# Altium integrated library Atmel Microcontroller AVR UC3.IntLib: 227 symbols (part 16 of 32)
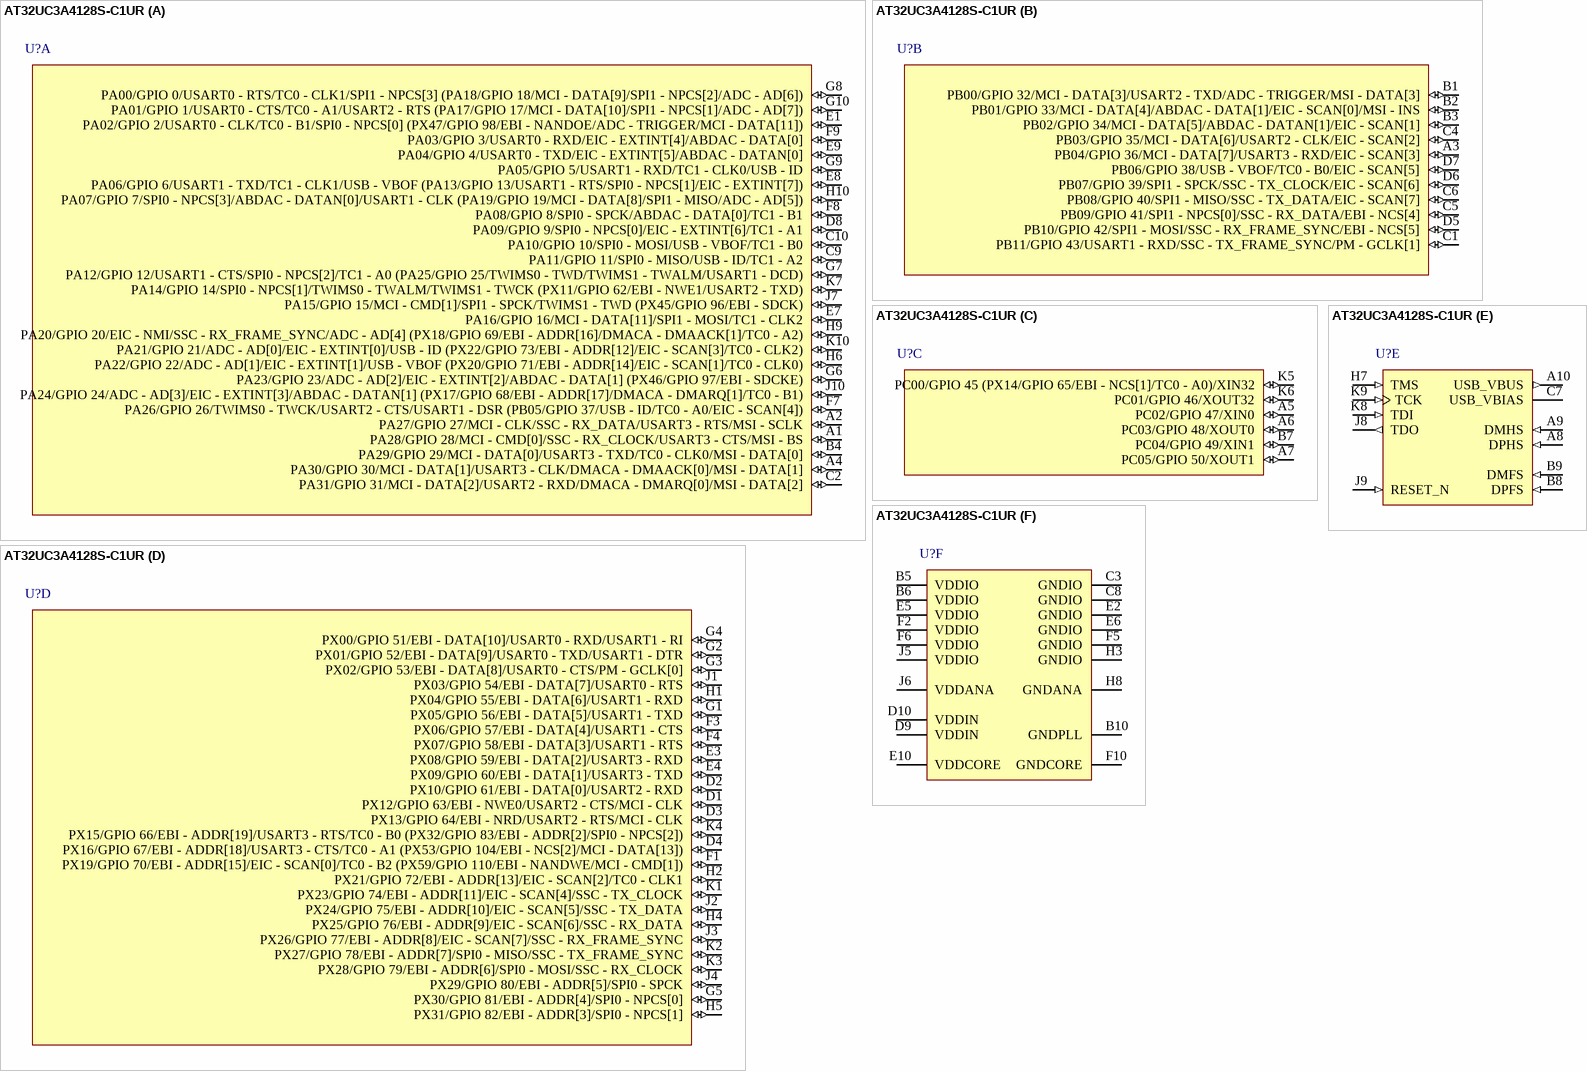
[diagram p150: symbol AT32UC3A4128S-C1UR]

## AT32UC3A4128S-C1UR
designator U?
32-bit AVR UC3 Microcontroller, 128KB Flash, 128KB SRAM, Crypto, 100-Ball VFBGA, Industrial Grade, Reel; DatasheetVersion: revG, Nov-2011; PackageVersion: 2011; PackageReference: VFBGA100; PackageDescription: 100-Ball Thin Fine-Pitch BGA, 7 x 7 x 0.66 mm Body, 0.65 mm Pitch; ComponentLink1Description: Manufacturer URL; ComponentLink1URL: http://www.atmel.com/; ComponentLink2Description: AT32UC3A3/A4 Datasheet; ComponentLink2URL: http://www.atmel.com/dyn/resources/prod_documents/doc32072.pdf; ComponentLink3Description: AT32UC3A3/A4 Summary; ComponentLink3URL: http://www.atmel.com/dyn/resources/prod_documents/32072s.pdf
footprint VFBGA100 (BGA, 100-Leads, Body 7x7mm, Pitch 0.65mm)
part A pins: A1 PA28/GPIO 28/MCI - CMD[0]/SSC - RX_CLOCK/USART3 - CTS/MSI - BS (io), A2 PA27/GPIO 27/MCI - CLK/SSC - RX_DATA/USART3 - RTS/MSI - SCLK (io), A4 PA30/GPIO 30/MCI - DATA[1]/USART3 - CLK/DMACA - DMAACK[0]/MSI - DATA[1] (io), B4 PA29/GPIO 29/MCI - DATA[0]/USART3 - TXD/TC0 - CLK0/MSI - DATA[0] (io), C2 PA31/GPIO 31/MCI - DATA[2]/USART2 - RXD/DMACA - DMARQ[0]/MSI - DATA[2] (io), C9 PA11/GPIO 11/SPI0 - MISO/USB - ID/TC1 - A2 (io), C10 PA10/GPIO 10/SPI0 - MOSI/USB - VBOF/TC1 - B0 (io), D8 PA09/GPIO 9/SPI0 - NPCS[0]/EIC - EXTINT[6]/TC1 - A1 (io), E1 PA02/GPIO 2/USART0 - CLK/TC0 - B1/SPI0 - NPCS[0] (PX47/GPIO 98/EBI - NANDOE/ADC - TRIGGER/MCI - DATA[11]) (io), E7 PA16/GPIO 16/MCI - DATA[11]/SPI1 - MOSI/TC1 - CLK2 (io), E8 PA06/GPIO 6/USART1 - TXD/TC1 - CLK1/USB - VBOF (PA13/GPIO 13/USART1 - RTS/SPI0 - NPCS[1]/EIC - EXTINT[7]) (io), E9 PA04/GPIO 4/USART0 - TXD/EIC - EXTINT[5]/ABDAC - DATAN[0] (io), F7 PA26/GPIO 26/TWIMS0 - TWCK/USART2 - CTS/USART1 - DSR (PB05/GPIO 37/USB - ID/TC0 - A0/EIC - SCAN[4]) (io), F8 PA08/GPIO 8/SPI0 - SPCK/ABDAC - DATA[0]/TC1 - B1 (io), F9 PA03/GPIO 3/USART0 - RXD/EIC - EXTINT[4]/ABDAC - DATA[0] (io), G6 PA23/GPIO 23/ADC - AD[2]/EIC - EXTINT[2]/ABDAC - DATA[1] (PX46/GPIO 97/EBI - SDCKE) (io), G7 PA12/GPIO 12/USART1 - CTS/SPI0 - NPCS[2]/TC1 - A0 (PA25/GPIO 25/TWIMS0 - TWD/TWIMS1 - TWALM/USART1 - DCD) (io), G8 PA00/GPIO 0/USART0 - RTS/TC0 - CLK1/SPI1 - NPCS[3] (PA18/GPIO 18/MCI - DATA[9]/SPI1 - NPCS[2]/ADC - AD[6]) (io), G9 PA05/GPIO 5/USART1 - RXD/TC1 - CLK0/USB - ID (io), G10 PA01/GPIO 1/USART0 - CTS/TC0 - A1/USART2 - RTS (PA17/GPIO 17/MCI - DATA[10]/SPI1 - NPCS[1]/ADC - AD[7]) (io), H6 PA22/GPIO 22/ADC - AD[1]/EIC - EXTINT[1]/USB - VBOF (PX20/GPIO 71/EBI - ADDR[14]/EIC - SCAN[1]/TC0 - CLK0) (io), H9 PA20/GPIO 20/EIC - NMI/SSC - RX_FRAME_SYNC/ADC - AD[4] (PX18/GPIO 69/EBI - ADDR[16]/DMACA - DMAACK[1]/TC0 - A2) (io), H10 PA07/GPIO 7/SPI0 - NPCS[3]/ABDAC - DATAN[0]/USART1 - CLK (PA19/GPIO 19/MCI - DATA[8]/SPI1 - MISO/ADC - AD[5]) (io), J7 PA15/GPIO 15/MCI - CMD[1]/SPI1 - SPCK/TWIMS1 - TWD (PX45/GPIO 96/EBI - SDCK) (io), J10 PA24/GPIO 24/ADC - AD[3]/EIC - EXTINT[3]/ABDAC - DATAN[1] (PX17/GPIO 68/EBI - ADDR[17]/DMACA - DMARQ[1]/TC0 - B1) (io), K7 PA14/GPIO 14/SPI0 - NPCS[1]/TWIMS0 - TWALM/TWIMS1 - TWCK (PX11/GPIO 62/EBI - NWE1/USART2 - TXD) (io), K10 PA21/GPIO 21/ADC - AD[0]/EIC - EXTINT[0]/USB - ID (PX22/GPIO 73/EBI - ADDR[12]/EIC - SCAN[3]/TC0 - CLK2) (io)
part B pins: A3 PB04/GPIO 36/MCI - DATA[7]/USART3 - RXD/EIC - SCAN[3] (io), B1 PB00/GPIO 32/MCI - DATA[3]/USART2 - TXD/ADC - TRIGGER/MSI - DATA[3] (io), B2 PB01/GPIO 33/MCI - DATA[4]/ABDAC - DATA[1]/EIC - SCAN[0]/MSI - INS (io), B3 PB02/GPIO 34/MCI - DATA[5]/ABDAC - DATAN[1]/EIC - SCAN[1] (io), C1 PB11/GPIO 43/USART1 - RXD/SSC - TX_FRAME_SYNC/PM - GCLK[1] (io), C4 PB03/GPIO 35/MCI - DATA[6]/USART2 - CLK/EIC - SCAN[2] (io), C5 PB09/GPIO 41/SPI1 - NPCS[0]/SSC - RX_DATA/EBI - NCS[4] (io), C6 PB08/GPIO 40/SPI1 - MISO/SSC - TX_DATA/EIC - SCAN[7] (io), D5 PB10/GPIO 42/SPI1 - MOSI/SSC - RX_FRAME_SYNC/EBI - NCS[5] (io), D6 PB07/GPIO 39/SPI1 - SPCK/SSC - TX_CLOCK/EIC - SCAN[6] (io), D7 PB06/GPIO 38/USB - VBOF/TC0 - B0/EIC - SCAN[5] (io)
part C pins: A5 PC02/GPIO 47/XIN0 (io), A6 PC03/GPIO 48/XOUT0 (io), A7 PC05/GPIO 50/XOUT1 (io), B7 PC04/GPIO 49/XIN1 (io), K5 PC00/GPIO 45 (PX14/GPIO 65/EBI - NCS[1]/TC0 - A0)/XIN32 (io), K6 PC01/GPIO 46/XOUT32 (io)
part D pins: D1 PX12/GPIO 63/EBI - NWE0/USART2 - CTS/MCI - CLK (io), D2 PX10/GPIO 61/EBI - DATA[0]/USART2 - RXD (io), D3 PX13/GPIO 64/EBI - NRD/USART2 - RTS/MCI - CLK (io), D4 PX16/GPIO 67/EBI - ADDR[18]/USART3 - CTS/TC0 - A1 (PX53/GPIO 104/EBI - NCS[2]/MCI - DATA[13]) (io), E3 PX08/GPIO 59/EBI - DATA[2]/USART3 - RXD (io), E4 PX09/GPIO 60/EBI - DATA[1]/USART3 - TXD (io), F1 PX19/GPIO 70/EBI - ADDR[15]/EIC - SCAN[0]/TC0 - B2 (PX59/GPIO 110/EBI - NANDWE/MCI - CMD[1]) (io), F3 PX06/GPIO 57/EBI - DATA[4]/USART1 - CTS (io), F4 PX07/GPIO 58/EBI - DATA[3]/USART1 - RTS (io), G1 PX05/GPIO 56/EBI - DATA[5]/USART1 - TXD (io), G2 PX01/GPIO 52/EBI - DATA[9]/USART0 - TXD/USART1 - DTR (io), G3 PX02/GPIO 53/EBI - DATA[8]/USART0 - CTS/PM - GCLK[0] (io), G4 PX00/GPIO 51/EBI - DATA[10]/USART0 - RXD/USART1 - RI (io), G5 PX30/GPIO 81/EBI - ADDR[4]/SPI0 - NPCS[0] (io), H1 PX04/GPIO 55/EBI - DATA[6]/USART1 - RXD (io), H2 PX21/GPIO 72/EBI - ADDR[13]/EIC - SCAN[2]/TC0 - CLK1 (io), H4 PX25/GPIO 76/EBI - ADDR[9]/EIC - SCAN[6]/SSC - RX_DATA (io), H5 PX31/GPIO 82/EBI - ADDR[3]/SPI0 - NPCS[1] (io), J1 PX03/GPIO 54/EBI - DATA[7]/USART0 - RTS (io), J2 PX24/GPIO 75/EBI - ADDR[10]/EIC - SCAN[5]/SSC - TX_DATA (io), J3 PX26/GPIO 77/EBI - ADDR[8]/EIC - SCAN[7]/SSC - RX_FRAME_SYNC (io), J4 PX29/GPIO 80/EBI - ADDR[5]/SPI0 - SPCK (io), K1 PX23/GPIO 74/EBI - ADDR[11]/EIC - SCAN[4]/SSC - TX_CLOCK (io), K2 PX27/GPIO 78/EBI - ADDR[7]/SPI0 - MISO/SSC - TX_FRAME_SYNC (io), K3 PX28/GPIO 79/EBI - ADDR[6]/SPI0 - MOSI/SSC - RX_CLOCK (io), K4 PX15/GPIO 66/EBI - ADDR[19]/USART3 - RTS/TC0 - B0 (PX32/GPIO 83/EBI - ADDR[2]/SPI0 - NPCS[2]) (io)
part E pins: A8 DPHS (in), A9 DMHS (in), A10 USB_VBUS (out), B8 DPFS (in), B9 DMFS (in), C7 USB_VBIAS, H7 TMS (in), J8 TDO (out), J9 RESET_N (in), K8 TDI (in), K9 TCK (in)
part F pins: B5 VDDIO (power), B6 VDDIO (power), B10 GNDPLL (power), C3 GNDIO (power), C8 GNDIO (power), D9 VDDIN (power), D10 VDDIN (power), E2 GNDIO (power), E5 VDDIO (power), E6 GNDIO (power), E10 VDDCORE (power), F2 VDDIO (power), F5 GNDIO (power), F6 VDDIO (power), F10 GNDCORE (power), H3 GNDIO (power), H8 GNDANA (power), J5 VDDIO (power), J6 VDDANA (power)

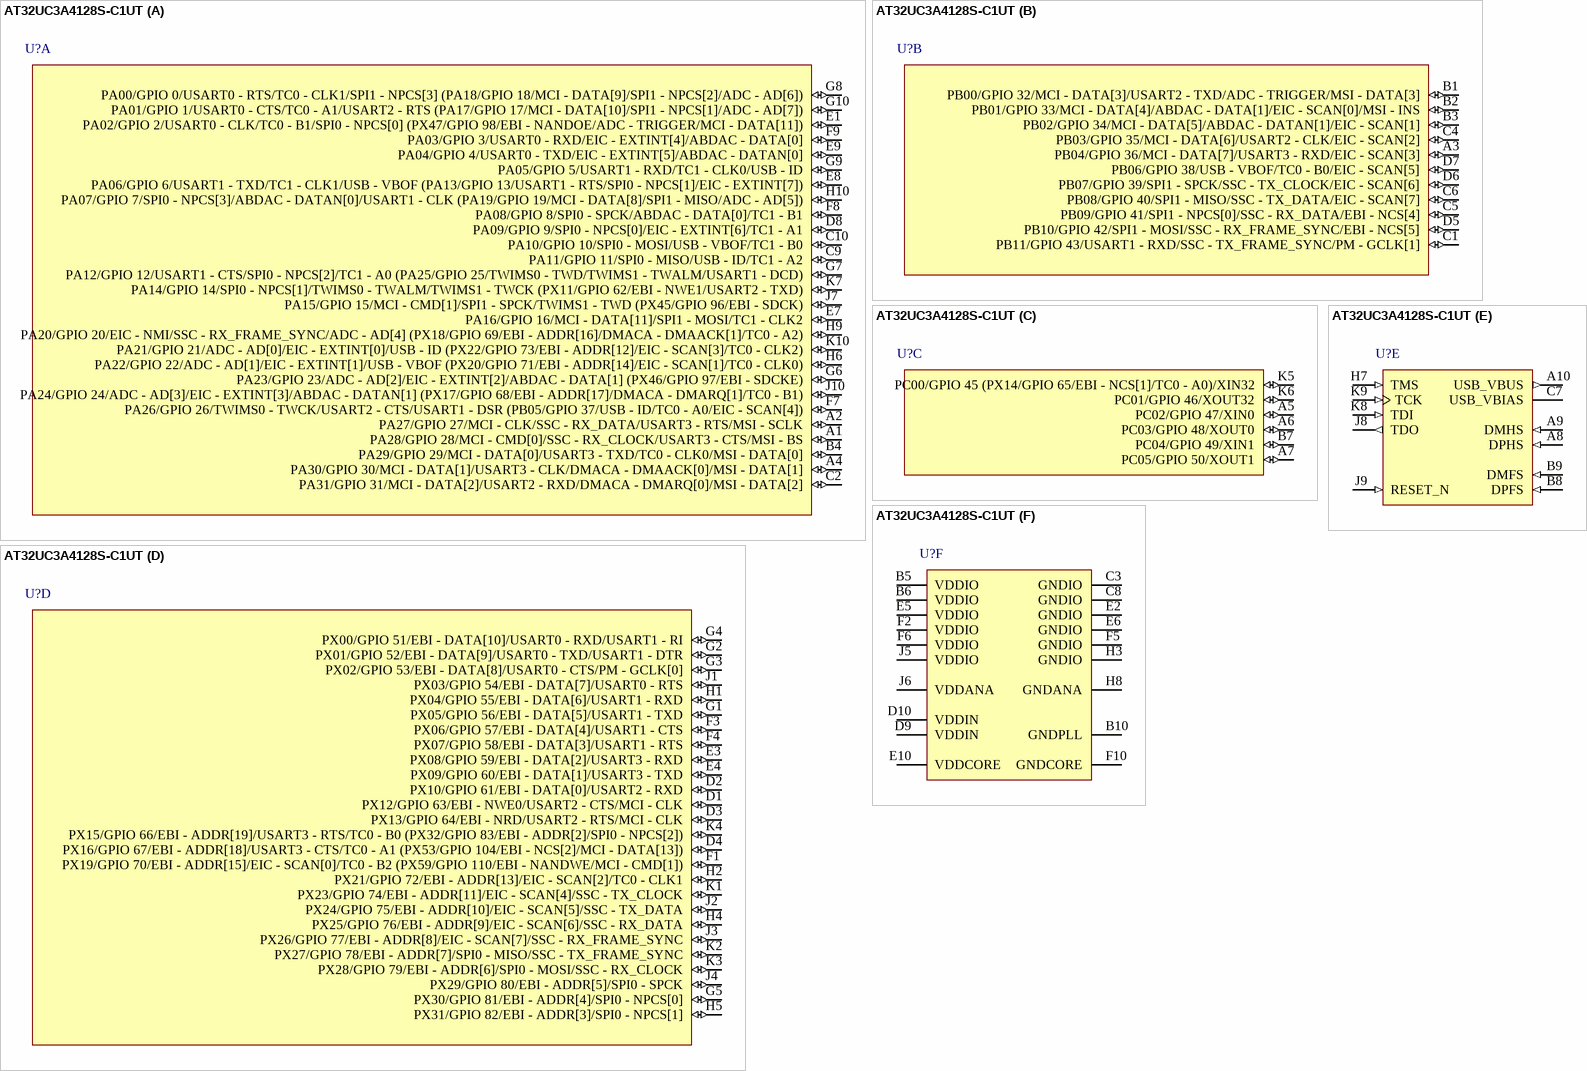
[diagram p51: symbol AT32UC3A4128S-C1UT]

## AT32UC3A4128S-C1UT
designator U?
32-bit AVR UC3 Microcontroller, 128KB Flash, 128KB SRAM, Crypto, 100-Ball VFBGA, Industrial Grade, Tray; DatasheetVersion: revG, Nov-2011; PackageVersion: 2011; PackageReference: VFBGA100; PackageDescription: 100-Ball Thin Fine-Pitch BGA, 7 x 7 x 0.66 mm Body, 0.65 mm Pitch; ComponentLink1Description: Manufacturer URL; ComponentLink1URL: http://www.atmel.com/; ComponentLink2Description: AT32UC3A3/A4 Datasheet; ComponentLink2URL: http://www.atmel.com/dyn/resources/prod_documents/doc32072.pdf; ComponentLink3Description: AT32UC3A3/A4 Summary; ComponentLink3URL: http://www.atmel.com/dyn/resources/prod_documents/32072s.pdf
footprint VFBGA100 (BGA, 100-Leads, Body 7x7mm, Pitch 0.65mm)
part A pins: A1 PA28/GPIO 28/MCI - CMD[0]/SSC - RX_CLOCK/USART3 - CTS/MSI - BS (io), A2 PA27/GPIO 27/MCI - CLK/SSC - RX_DATA/USART3 - RTS/MSI - SCLK (io), A4 PA30/GPIO 30/MCI - DATA[1]/USART3 - CLK/DMACA - DMAACK[0]/MSI - DATA[1] (io), B4 PA29/GPIO 29/MCI - DATA[0]/USART3 - TXD/TC0 - CLK0/MSI - DATA[0] (io), C2 PA31/GPIO 31/MCI - DATA[2]/USART2 - RXD/DMACA - DMARQ[0]/MSI - DATA[2] (io), C9 PA11/GPIO 11/SPI0 - MISO/USB - ID/TC1 - A2 (io), C10 PA10/GPIO 10/SPI0 - MOSI/USB - VBOF/TC1 - B0 (io), D8 PA09/GPIO 9/SPI0 - NPCS[0]/EIC - EXTINT[6]/TC1 - A1 (io), E1 PA02/GPIO 2/USART0 - CLK/TC0 - B1/SPI0 - NPCS[0] (PX47/GPIO 98/EBI - NANDOE/ADC - TRIGGER/MCI - DATA[11]) (io), E7 PA16/GPIO 16/MCI - DATA[11]/SPI1 - MOSI/TC1 - CLK2 (io), E8 PA06/GPIO 6/USART1 - TXD/TC1 - CLK1/USB - VBOF (PA13/GPIO 13/USART1 - RTS/SPI0 - NPCS[1]/EIC - EXTINT[7]) (io), E9 PA04/GPIO 4/USART0 - TXD/EIC - EXTINT[5]/ABDAC - DATAN[0] (io), F7 PA26/GPIO 26/TWIMS0 - TWCK/USART2 - CTS/USART1 - DSR (PB05/GPIO 37/USB - ID/TC0 - A0/EIC - SCAN[4]) (io), F8 PA08/GPIO 8/SPI0 - SPCK/ABDAC - DATA[0]/TC1 - B1 (io), F9 PA03/GPIO 3/USART0 - RXD/EIC - EXTINT[4]/ABDAC - DATA[0] (io), G6 PA23/GPIO 23/ADC - AD[2]/EIC - EXTINT[2]/ABDAC - DATA[1] (PX46/GPIO 97/EBI - SDCKE) (io), G7 PA12/GPIO 12/USART1 - CTS/SPI0 - NPCS[2]/TC1 - A0 (PA25/GPIO 25/TWIMS0 - TWD/TWIMS1 - TWALM/USART1 - DCD) (io), G8 PA00/GPIO 0/USART0 - RTS/TC0 - CLK1/SPI1 - NPCS[3] (PA18/GPIO 18/MCI - DATA[9]/SPI1 - NPCS[2]/ADC - AD[6]) (io), G9 PA05/GPIO 5/USART1 - RXD/TC1 - CLK0/USB - ID (io), G10 PA01/GPIO 1/USART0 - CTS/TC0 - A1/USART2 - RTS (PA17/GPIO 17/MCI - DATA[10]/SPI1 - NPCS[1]/ADC - AD[7]) (io), H6 PA22/GPIO 22/ADC - AD[1]/EIC - EXTINT[1]/USB - VBOF (PX20/GPIO 71/EBI - ADDR[14]/EIC - SCAN[1]/TC0 - CLK0) (io), H9 PA20/GPIO 20/EIC - NMI/SSC - RX_FRAME_SYNC/ADC - AD[4] (PX18/GPIO 69/EBI - ADDR[16]/DMACA - DMAACK[1]/TC0 - A2) (io), H10 PA07/GPIO 7/SPI0 - NPCS[3]/ABDAC - DATAN[0]/USART1 - CLK (PA19/GPIO 19/MCI - DATA[8]/SPI1 - MISO/ADC - AD[5]) (io), J7 PA15/GPIO 15/MCI - CMD[1]/SPI1 - SPCK/TWIMS1 - TWD (PX45/GPIO 96/EBI - SDCK) (io), J10 PA24/GPIO 24/ADC - AD[3]/EIC - EXTINT[3]/ABDAC - DATAN[1] (PX17/GPIO 68/EBI - ADDR[17]/DMACA - DMARQ[1]/TC0 - B1) (io), K7 PA14/GPIO 14/SPI0 - NPCS[1]/TWIMS0 - TWALM/TWIMS1 - TWCK (PX11/GPIO 62/EBI - NWE1/USART2 - TXD) (io), K10 PA21/GPIO 21/ADC - AD[0]/EIC - EXTINT[0]/USB - ID (PX22/GPIO 73/EBI - ADDR[12]/EIC - SCAN[3]/TC0 - CLK2) (io)
part B pins: A3 PB04/GPIO 36/MCI - DATA[7]/USART3 - RXD/EIC - SCAN[3] (io), B1 PB00/GPIO 32/MCI - DATA[3]/USART2 - TXD/ADC - TRIGGER/MSI - DATA[3] (io), B2 PB01/GPIO 33/MCI - DATA[4]/ABDAC - DATA[1]/EIC - SCAN[0]/MSI - INS (io), B3 PB02/GPIO 34/MCI - DATA[5]/ABDAC - DATAN[1]/EIC - SCAN[1] (io), C1 PB11/GPIO 43/USART1 - RXD/SSC - TX_FRAME_SYNC/PM - GCLK[1] (io), C4 PB03/GPIO 35/MCI - DATA[6]/USART2 - CLK/EIC - SCAN[2] (io), C5 PB09/GPIO 41/SPI1 - NPCS[0]/SSC - RX_DATA/EBI - NCS[4] (io), C6 PB08/GPIO 40/SPI1 - MISO/SSC - TX_DATA/EIC - SCAN[7] (io), D5 PB10/GPIO 42/SPI1 - MOSI/SSC - RX_FRAME_SYNC/EBI - NCS[5] (io), D6 PB07/GPIO 39/SPI1 - SPCK/SSC - TX_CLOCK/EIC - SCAN[6] (io), D7 PB06/GPIO 38/USB - VBOF/TC0 - B0/EIC - SCAN[5] (io)
part C pins: A5 PC02/GPIO 47/XIN0 (io), A6 PC03/GPIO 48/XOUT0 (io), A7 PC05/GPIO 50/XOUT1 (io), B7 PC04/GPIO 49/XIN1 (io), K5 PC00/GPIO 45 (PX14/GPIO 65/EBI - NCS[1]/TC0 - A0)/XIN32 (io), K6 PC01/GPIO 46/XOUT32 (io)
part D pins: D1 PX12/GPIO 63/EBI - NWE0/USART2 - CTS/MCI - CLK (io), D2 PX10/GPIO 61/EBI - DATA[0]/USART2 - RXD (io), D3 PX13/GPIO 64/EBI - NRD/USART2 - RTS/MCI - CLK (io), D4 PX16/GPIO 67/EBI - ADDR[18]/USART3 - CTS/TC0 - A1 (PX53/GPIO 104/EBI - NCS[2]/MCI - DATA[13]) (io), E3 PX08/GPIO 59/EBI - DATA[2]/USART3 - RXD (io), E4 PX09/GPIO 60/EBI - DATA[1]/USART3 - TXD (io), F1 PX19/GPIO 70/EBI - ADDR[15]/EIC - SCAN[0]/TC0 - B2 (PX59/GPIO 110/EBI - NANDWE/MCI - CMD[1]) (io), F3 PX06/GPIO 57/EBI - DATA[4]/USART1 - CTS (io), F4 PX07/GPIO 58/EBI - DATA[3]/USART1 - RTS (io), G1 PX05/GPIO 56/EBI - DATA[5]/USART1 - TXD (io), G2 PX01/GPIO 52/EBI - DATA[9]/USART0 - TXD/USART1 - DTR (io), G3 PX02/GPIO 53/EBI - DATA[8]/USART0 - CTS/PM - GCLK[0] (io), G4 PX00/GPIO 51/EBI - DATA[10]/USART0 - RXD/USART1 - RI (io), G5 PX30/GPIO 81/EBI - ADDR[4]/SPI0 - NPCS[0] (io), H1 PX04/GPIO 55/EBI - DATA[6]/USART1 - RXD (io), H2 PX21/GPIO 72/EBI - ADDR[13]/EIC - SCAN[2]/TC0 - CLK1 (io), H4 PX25/GPIO 76/EBI - ADDR[9]/EIC - SCAN[6]/SSC - RX_DATA (io), H5 PX31/GPIO 82/EBI - ADDR[3]/SPI0 - NPCS[1] (io), J1 PX03/GPIO 54/EBI - DATA[7]/USART0 - RTS (io), J2 PX24/GPIO 75/EBI - ADDR[10]/EIC - SCAN[5]/SSC - TX_DATA (io), J3 PX26/GPIO 77/EBI - ADDR[8]/EIC - SCAN[7]/SSC - RX_FRAME_SYNC (io), J4 PX29/GPIO 80/EBI - ADDR[5]/SPI0 - SPCK (io), K1 PX23/GPIO 74/EBI - ADDR[11]/EIC - SCAN[4]/SSC - TX_CLOCK (io), K2 PX27/GPIO 78/EBI - ADDR[7]/SPI0 - MISO/SSC - TX_FRAME_SYNC (io), K3 PX28/GPIO 79/EBI - ADDR[6]/SPI0 - MOSI/SSC - RX_CLOCK (io), K4 PX15/GPIO 66/EBI - ADDR[19]/USART3 - RTS/TC0 - B0 (PX32/GPIO 83/EBI - ADDR[2]/SPI0 - NPCS[2]) (io)
part E pins: A8 DPHS (in), A9 DMHS (in), A10 USB_VBUS (out), B8 DPFS (in), B9 DMFS (in), C7 USB_VBIAS, H7 TMS (in), J8 TDO (out), J9 RESET_N (in), K8 TDI (in), K9 TCK (in)
part F pins: B5 VDDIO (power), B6 VDDIO (power), B10 GNDPLL (power), C3 GNDIO (power), C8 GNDIO (power), D9 VDDIN (power), D10 VDDIN (power), E2 GNDIO (power), E5 VDDIO (power), E6 GNDIO (power), E10 VDDCORE (power), F2 VDDIO (power), F5 GNDIO (power), F6 VDDIO (power), F10 GNDCORE (power), H3 GNDIO (power), H8 GNDANA (power), J5 VDDIO (power), J6 VDDANA (power)

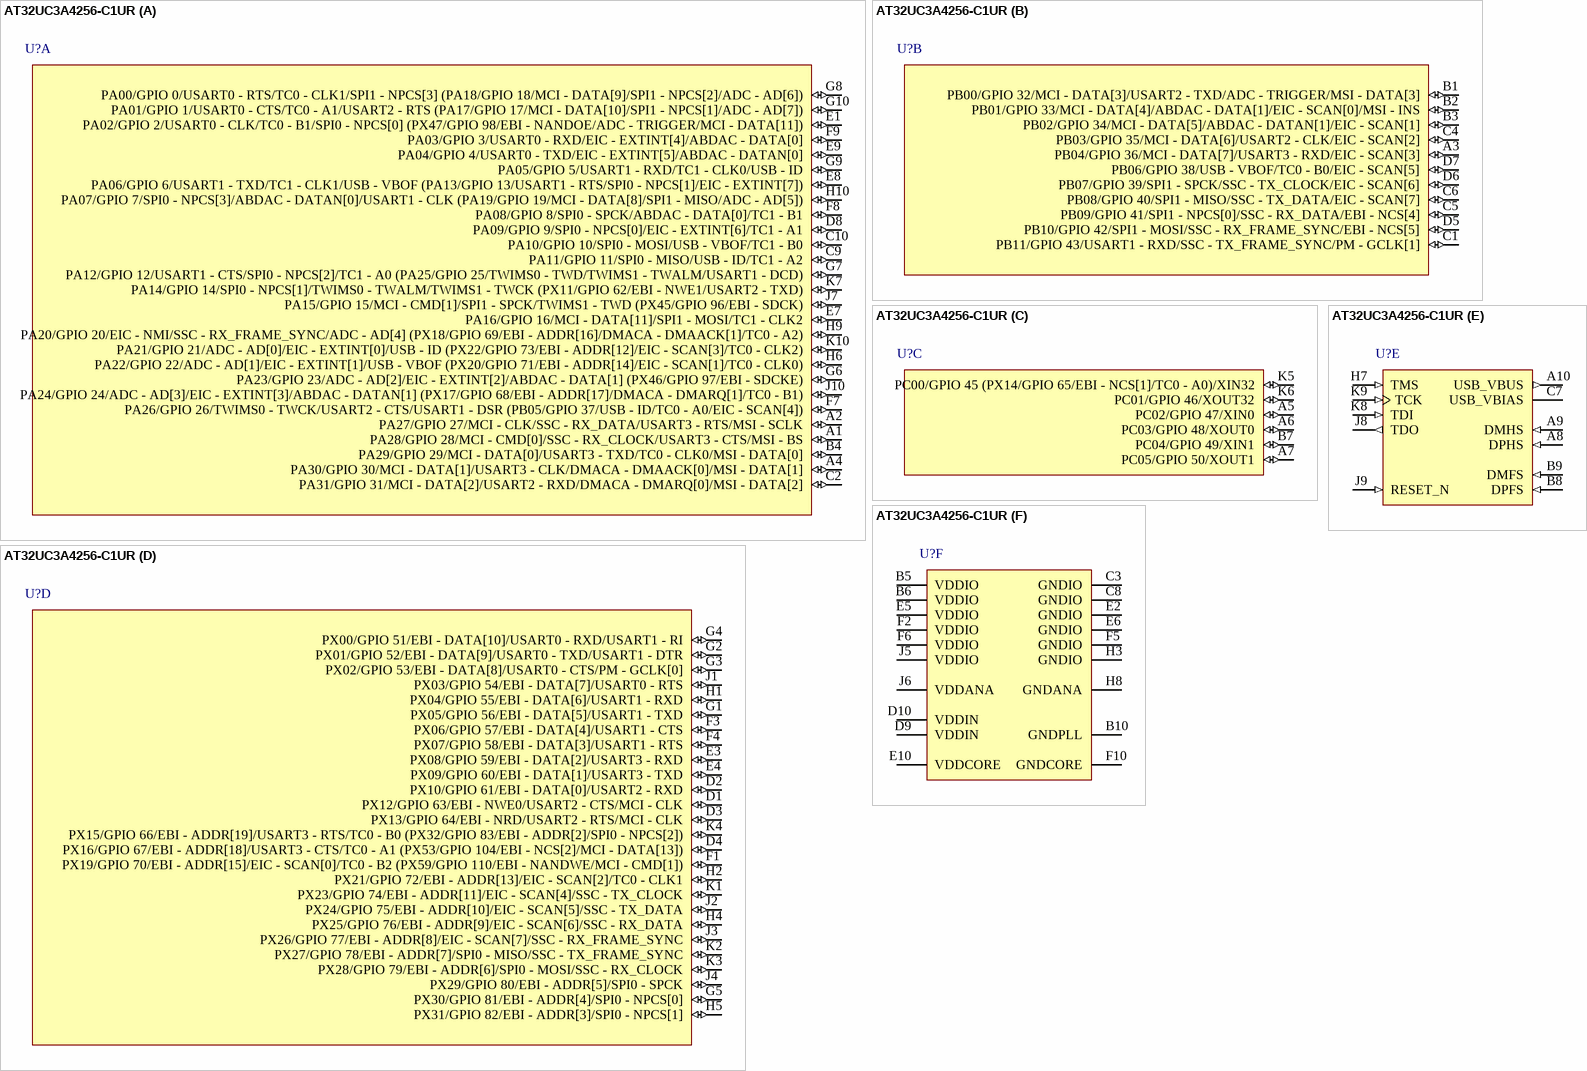
[diagram p52: symbol AT32UC3A4256-C1UR]

## AT32UC3A4256-C1UR
designator U?
32-bit AVR UC3 Microcontroller, 256KB Flash, 128KB SRAM, 100-Ball VFBGA, Industrial Grade, Reel; DatasheetVersion: revG, Nov-2011; PackageVersion: 2011; PackageReference: VFBGA100; PackageDescription: 100-Ball Thin Fine-Pitch BGA, 7 x 7 x 0.66 mm Body, 0.65 mm Pitch; ComponentLink1Description: Manufacturer URL; ComponentLink1URL: http://www.atmel.com/; ComponentLink2Description: AT32UC3A3/A4 Datasheet; ComponentLink2URL: http://www.atmel.com/dyn/resources/prod_documents/doc32072.pdf; ComponentLink3Description: AT32UC3A3/A4 Summary; ComponentLink3URL: http://www.atmel.com/dyn/resources/prod_documents/32072s.pdf
footprint VFBGA100 (BGA, 100-Leads, Body 7x7mm, Pitch 0.65mm)
part A pins: A1 PA28/GPIO 28/MCI - CMD[0]/SSC - RX_CLOCK/USART3 - CTS/MSI - BS (io), A2 PA27/GPIO 27/MCI - CLK/SSC - RX_DATA/USART3 - RTS/MSI - SCLK (io), A4 PA30/GPIO 30/MCI - DATA[1]/USART3 - CLK/DMACA - DMAACK[0]/MSI - DATA[1] (io), B4 PA29/GPIO 29/MCI - DATA[0]/USART3 - TXD/TC0 - CLK0/MSI - DATA[0] (io), C2 PA31/GPIO 31/MCI - DATA[2]/USART2 - RXD/DMACA - DMARQ[0]/MSI - DATA[2] (io), C9 PA11/GPIO 11/SPI0 - MISO/USB - ID/TC1 - A2 (io), C10 PA10/GPIO 10/SPI0 - MOSI/USB - VBOF/TC1 - B0 (io), D8 PA09/GPIO 9/SPI0 - NPCS[0]/EIC - EXTINT[6]/TC1 - A1 (io), E1 PA02/GPIO 2/USART0 - CLK/TC0 - B1/SPI0 - NPCS[0] (PX47/GPIO 98/EBI - NANDOE/ADC - TRIGGER/MCI - DATA[11]) (io), E7 PA16/GPIO 16/MCI - DATA[11]/SPI1 - MOSI/TC1 - CLK2 (io), E8 PA06/GPIO 6/USART1 - TXD/TC1 - CLK1/USB - VBOF (PA13/GPIO 13/USART1 - RTS/SPI0 - NPCS[1]/EIC - EXTINT[7]) (io), E9 PA04/GPIO 4/USART0 - TXD/EIC - EXTINT[5]/ABDAC - DATAN[0] (io), F7 PA26/GPIO 26/TWIMS0 - TWCK/USART2 - CTS/USART1 - DSR (PB05/GPIO 37/USB - ID/TC0 - A0/EIC - SCAN[4]) (io), F8 PA08/GPIO 8/SPI0 - SPCK/ABDAC - DATA[0]/TC1 - B1 (io), F9 PA03/GPIO 3/USART0 - RXD/EIC - EXTINT[4]/ABDAC - DATA[0] (io), G6 PA23/GPIO 23/ADC - AD[2]/EIC - EXTINT[2]/ABDAC - DATA[1] (PX46/GPIO 97/EBI - SDCKE) (io), G7 PA12/GPIO 12/USART1 - CTS/SPI0 - NPCS[2]/TC1 - A0 (PA25/GPIO 25/TWIMS0 - TWD/TWIMS1 - TWALM/USART1 - DCD) (io), G8 PA00/GPIO 0/USART0 - RTS/TC0 - CLK1/SPI1 - NPCS[3] (PA18/GPIO 18/MCI - DATA[9]/SPI1 - NPCS[2]/ADC - AD[6]) (io), G9 PA05/GPIO 5/USART1 - RXD/TC1 - CLK0/USB - ID (io), G10 PA01/GPIO 1/USART0 - CTS/TC0 - A1/USART2 - RTS (PA17/GPIO 17/MCI - DATA[10]/SPI1 - NPCS[1]/ADC - AD[7]) (io), H6 PA22/GPIO 22/ADC - AD[1]/EIC - EXTINT[1]/USB - VBOF (PX20/GPIO 71/EBI - ADDR[14]/EIC - SCAN[1]/TC0 - CLK0) (io), H9 PA20/GPIO 20/EIC - NMI/SSC - RX_FRAME_SYNC/ADC - AD[4] (PX18/GPIO 69/EBI - ADDR[16]/DMACA - DMAACK[1]/TC0 - A2) (io), H10 PA07/GPIO 7/SPI0 - NPCS[3]/ABDAC - DATAN[0]/USART1 - CLK (PA19/GPIO 19/MCI - DATA[8]/SPI1 - MISO/ADC - AD[5]) (io), J7 PA15/GPIO 15/MCI - CMD[1]/SPI1 - SPCK/TWIMS1 - TWD (PX45/GPIO 96/EBI - SDCK) (io), J10 PA24/GPIO 24/ADC - AD[3]/EIC - EXTINT[3]/ABDAC - DATAN[1] (PX17/GPIO 68/EBI - ADDR[17]/DMACA - DMARQ[1]/TC0 - B1) (io), K7 PA14/GPIO 14/SPI0 - NPCS[1]/TWIMS0 - TWALM/TWIMS1 - TWCK (PX11/GPIO 62/EBI - NWE1/USART2 - TXD) (io), K10 PA21/GPIO 21/ADC - AD[0]/EIC - EXTINT[0]/USB - ID (PX22/GPIO 73/EBI - ADDR[12]/EIC - SCAN[3]/TC0 - CLK2) (io)
part B pins: A3 PB04/GPIO 36/MCI - DATA[7]/USART3 - RXD/EIC - SCAN[3] (io), B1 PB00/GPIO 32/MCI - DATA[3]/USART2 - TXD/ADC - TRIGGER/MSI - DATA[3] (io), B2 PB01/GPIO 33/MCI - DATA[4]/ABDAC - DATA[1]/EIC - SCAN[0]/MSI - INS (io), B3 PB02/GPIO 34/MCI - DATA[5]/ABDAC - DATAN[1]/EIC - SCAN[1] (io), C1 PB11/GPIO 43/USART1 - RXD/SSC - TX_FRAME_SYNC/PM - GCLK[1] (io), C4 PB03/GPIO 35/MCI - DATA[6]/USART2 - CLK/EIC - SCAN[2] (io), C5 PB09/GPIO 41/SPI1 - NPCS[0]/SSC - RX_DATA/EBI - NCS[4] (io), C6 PB08/GPIO 40/SPI1 - MISO/SSC - TX_DATA/EIC - SCAN[7] (io), D5 PB10/GPIO 42/SPI1 - MOSI/SSC - RX_FRAME_SYNC/EBI - NCS[5] (io), D6 PB07/GPIO 39/SPI1 - SPCK/SSC - TX_CLOCK/EIC - SCAN[6] (io), D7 PB06/GPIO 38/USB - VBOF/TC0 - B0/EIC - SCAN[5] (io)
part C pins: A5 PC02/GPIO 47/XIN0 (io), A6 PC03/GPIO 48/XOUT0 (io), A7 PC05/GPIO 50/XOUT1 (io), B7 PC04/GPIO 49/XIN1 (io), K5 PC00/GPIO 45 (PX14/GPIO 65/EBI - NCS[1]/TC0 - A0)/XIN32 (io), K6 PC01/GPIO 46/XOUT32 (io)
part D pins: D1 PX12/GPIO 63/EBI - NWE0/USART2 - CTS/MCI - CLK (io), D2 PX10/GPIO 61/EBI - DATA[0]/USART2 - RXD (io), D3 PX13/GPIO 64/EBI - NRD/USART2 - RTS/MCI - CLK (io), D4 PX16/GPIO 67/EBI - ADDR[18]/USART3 - CTS/TC0 - A1 (PX53/GPIO 104/EBI - NCS[2]/MCI - DATA[13]) (io), E3 PX08/GPIO 59/EBI - DATA[2]/USART3 - RXD (io), E4 PX09/GPIO 60/EBI - DATA[1]/USART3 - TXD (io), F1 PX19/GPIO 70/EBI - ADDR[15]/EIC - SCAN[0]/TC0 - B2 (PX59/GPIO 110/EBI - NANDWE/MCI - CMD[1]) (io), F3 PX06/GPIO 57/EBI - DATA[4]/USART1 - CTS (io), F4 PX07/GPIO 58/EBI - DATA[3]/USART1 - RTS (io), G1 PX05/GPIO 56/EBI - DATA[5]/USART1 - TXD (io), G2 PX01/GPIO 52/EBI - DATA[9]/USART0 - TXD/USART1 - DTR (io), G3 PX02/GPIO 53/EBI - DATA[8]/USART0 - CTS/PM - GCLK[0] (io), G4 PX00/GPIO 51/EBI - DATA[10]/USART0 - RXD/USART1 - RI (io), G5 PX30/GPIO 81/EBI - ADDR[4]/SPI0 - NPCS[0] (io), H1 PX04/GPIO 55/EBI - DATA[6]/USART1 - RXD (io), H2 PX21/GPIO 72/EBI - ADDR[13]/EIC - SCAN[2]/TC0 - CLK1 (io), H4 PX25/GPIO 76/EBI - ADDR[9]/EIC - SCAN[6]/SSC - RX_DATA (io), H5 PX31/GPIO 82/EBI - ADDR[3]/SPI0 - NPCS[1] (io), J1 PX03/GPIO 54/EBI - DATA[7]/USART0 - RTS (io), J2 PX24/GPIO 75/EBI - ADDR[10]/EIC - SCAN[5]/SSC - TX_DATA (io), J3 PX26/GPIO 77/EBI - ADDR[8]/EIC - SCAN[7]/SSC - RX_FRAME_SYNC (io), J4 PX29/GPIO 80/EBI - ADDR[5]/SPI0 - SPCK (io), K1 PX23/GPIO 74/EBI - ADDR[11]/EIC - SCAN[4]/SSC - TX_CLOCK (io), K2 PX27/GPIO 78/EBI - ADDR[7]/SPI0 - MISO/SSC - TX_FRAME_SYNC (io), K3 PX28/GPIO 79/EBI - ADDR[6]/SPI0 - MOSI/SSC - RX_CLOCK (io), K4 PX15/GPIO 66/EBI - ADDR[19]/USART3 - RTS/TC0 - B0 (PX32/GPIO 83/EBI - ADDR[2]/SPI0 - NPCS[2]) (io)
part E pins: A8 DPHS (in), A9 DMHS (in), A10 USB_VBUS (out), B8 DPFS (in), B9 DMFS (in), C7 USB_VBIAS, H7 TMS (in), J8 TDO (out), J9 RESET_N (in), K8 TDI (in), K9 TCK (in)
part F pins: B5 VDDIO (power), B6 VDDIO (power), B10 GNDPLL (power), C3 GNDIO (power), C8 GNDIO (power), D9 VDDIN (power), D10 VDDIN (power), E2 GNDIO (power), E5 VDDIO (power), E6 GNDIO (power), E10 VDDCORE (power), F2 VDDIO (power), F5 GNDIO (power), F6 VDDIO (power), F10 GNDCORE (power), H3 GNDIO (power), H8 GNDANA (power), J5 VDDIO (power), J6 VDDANA (power)

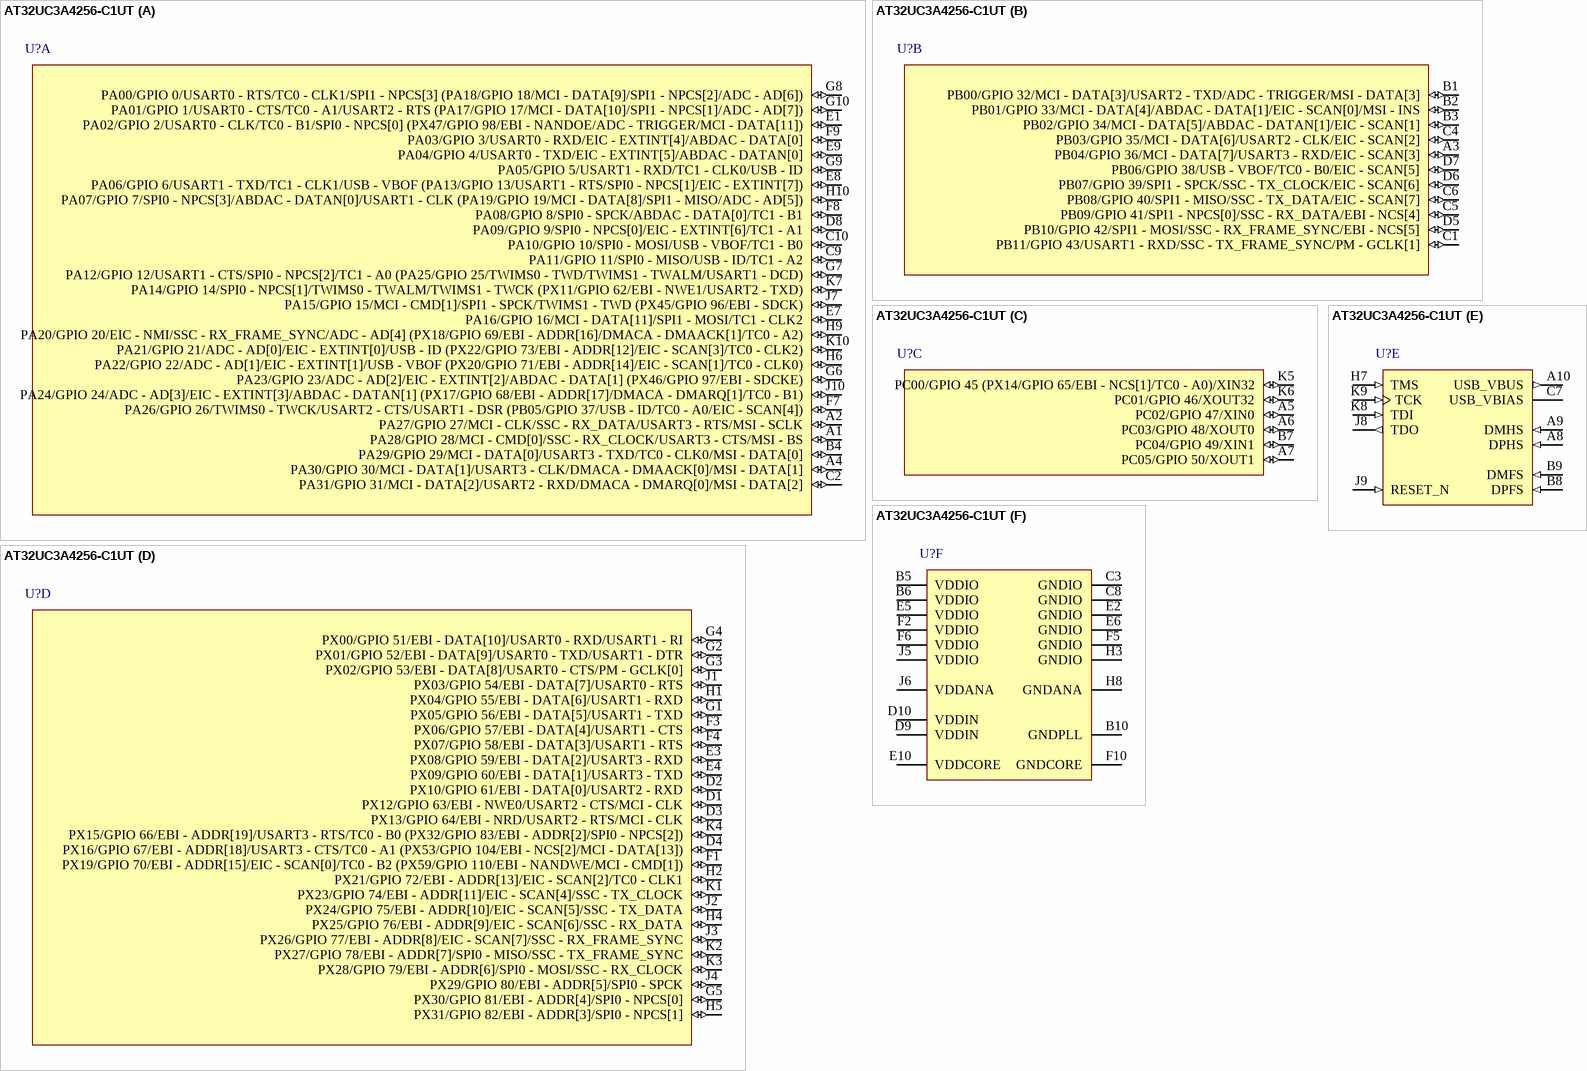
[diagram p53: symbol AT32UC3A4256-C1UT]

## AT32UC3A4256-C1UT
designator U?
32-bit AVR UC3 Microcontroller, 256KB Flash, 128KB SRAM, 100-Ball VFBGA, Industrial Grade, Tray; DatasheetVersion: revG, Nov-2011; PackageVersion: 2011; PackageReference: VFBGA100; PackageDescription: 100-Ball Thin Fine-Pitch BGA, 7 x 7 x 0.66 mm Body, 0.65 mm Pitch; ComponentLink1Description: Manufacturer URL; ComponentLink1URL: http://www.atmel.com/; ComponentLink2Description: AT32UC3A3/A4 Datasheet; ComponentLink2URL: http://www.atmel.com/dyn/resources/prod_documents/doc32072.pdf; ComponentLink3Description: AT32UC3A3/A4 Summary; ComponentLink3URL: http://www.atmel.com/dyn/resources/prod_documents/32072s.pdf
footprint VFBGA100 (BGA, 100-Leads, Body 7x7mm, Pitch 0.65mm)
part A pins: A1 PA28/GPIO 28/MCI - CMD[0]/SSC - RX_CLOCK/USART3 - CTS/MSI - BS (io), A2 PA27/GPIO 27/MCI - CLK/SSC - RX_DATA/USART3 - RTS/MSI - SCLK (io), A4 PA30/GPIO 30/MCI - DATA[1]/USART3 - CLK/DMACA - DMAACK[0]/MSI - DATA[1] (io), B4 PA29/GPIO 29/MCI - DATA[0]/USART3 - TXD/TC0 - CLK0/MSI - DATA[0] (io), C2 PA31/GPIO 31/MCI - DATA[2]/USART2 - RXD/DMACA - DMARQ[0]/MSI - DATA[2] (io), C9 PA11/GPIO 11/SPI0 - MISO/USB - ID/TC1 - A2 (io), C10 PA10/GPIO 10/SPI0 - MOSI/USB - VBOF/TC1 - B0 (io), D8 PA09/GPIO 9/SPI0 - NPCS[0]/EIC - EXTINT[6]/TC1 - A1 (io), E1 PA02/GPIO 2/USART0 - CLK/TC0 - B1/SPI0 - NPCS[0] (PX47/GPIO 98/EBI - NANDOE/ADC - TRIGGER/MCI - DATA[11]) (io), E7 PA16/GPIO 16/MCI - DATA[11]/SPI1 - MOSI/TC1 - CLK2 (io), E8 PA06/GPIO 6/USART1 - TXD/TC1 - CLK1/USB - VBOF (PA13/GPIO 13/USART1 - RTS/SPI0 - NPCS[1]/EIC - EXTINT[7]) (io), E9 PA04/GPIO 4/USART0 - TXD/EIC - EXTINT[5]/ABDAC - DATAN[0] (io), F7 PA26/GPIO 26/TWIMS0 - TWCK/USART2 - CTS/USART1 - DSR (PB05/GPIO 37/USB - ID/TC0 - A0/EIC - SCAN[4]) (io), F8 PA08/GPIO 8/SPI0 - SPCK/ABDAC - DATA[0]/TC1 - B1 (io), F9 PA03/GPIO 3/USART0 - RXD/EIC - EXTINT[4]/ABDAC - DATA[0] (io), G6 PA23/GPIO 23/ADC - AD[2]/EIC - EXTINT[2]/ABDAC - DATA[1] (PX46/GPIO 97/EBI - SDCKE) (io), G7 PA12/GPIO 12/USART1 - CTS/SPI0 - NPCS[2]/TC1 - A0 (PA25/GPIO 25/TWIMS0 - TWD/TWIMS1 - TWALM/USART1 - DCD) (io), G8 PA00/GPIO 0/USART0 - RTS/TC0 - CLK1/SPI1 - NPCS[3] (PA18/GPIO 18/MCI - DATA[9]/SPI1 - NPCS[2]/ADC - AD[6]) (io), G9 PA05/GPIO 5/USART1 - RXD/TC1 - CLK0/USB - ID (io), G10 PA01/GPIO 1/USART0 - CTS/TC0 - A1/USART2 - RTS (PA17/GPIO 17/MCI - DATA[10]/SPI1 - NPCS[1]/ADC - AD[7]) (io), H6 PA22/GPIO 22/ADC - AD[1]/EIC - EXTINT[1]/USB - VBOF (PX20/GPIO 71/EBI - ADDR[14]/EIC - SCAN[1]/TC0 - CLK0) (io), H9 PA20/GPIO 20/EIC - NMI/SSC - RX_FRAME_SYNC/ADC - AD[4] (PX18/GPIO 69/EBI - ADDR[16]/DMACA - DMAACK[1]/TC0 - A2) (io), H10 PA07/GPIO 7/SPI0 - NPCS[3]/ABDAC - DATAN[0]/USART1 - CLK (PA19/GPIO 19/MCI - DATA[8]/SPI1 - MISO/ADC - AD[5]) (io), J7 PA15/GPIO 15/MCI - CMD[1]/SPI1 - SPCK/TWIMS1 - TWD (PX45/GPIO 96/EBI - SDCK) (io), J10 PA24/GPIO 24/ADC - AD[3]/EIC - EXTINT[3]/ABDAC - DATAN[1] (PX17/GPIO 68/EBI - ADDR[17]/DMACA - DMARQ[1]/TC0 - B1) (io), K7 PA14/GPIO 14/SPI0 - NPCS[1]/TWIMS0 - TWALM/TWIMS1 - TWCK (PX11/GPIO 62/EBI - NWE1/USART2 - TXD) (io), K10 PA21/GPIO 21/ADC - AD[0]/EIC - EXTINT[0]/USB - ID (PX22/GPIO 73/EBI - ADDR[12]/EIC - SCAN[3]/TC0 - CLK2) (io)
part B pins: A3 PB04/GPIO 36/MCI - DATA[7]/USART3 - RXD/EIC - SCAN[3] (io), B1 PB00/GPIO 32/MCI - DATA[3]/USART2 - TXD/ADC - TRIGGER/MSI - DATA[3] (io), B2 PB01/GPIO 33/MCI - DATA[4]/ABDAC - DATA[1]/EIC - SCAN[0]/MSI - INS (io), B3 PB02/GPIO 34/MCI - DATA[5]/ABDAC - DATAN[1]/EIC - SCAN[1] (io), C1 PB11/GPIO 43/USART1 - RXD/SSC - TX_FRAME_SYNC/PM - GCLK[1] (io), C4 PB03/GPIO 35/MCI - DATA[6]/USART2 - CLK/EIC - SCAN[2] (io), C5 PB09/GPIO 41/SPI1 - NPCS[0]/SSC - RX_DATA/EBI - NCS[4] (io), C6 PB08/GPIO 40/SPI1 - MISO/SSC - TX_DATA/EIC - SCAN[7] (io), D5 PB10/GPIO 42/SPI1 - MOSI/SSC - RX_FRAME_SYNC/EBI - NCS[5] (io), D6 PB07/GPIO 39/SPI1 - SPCK/SSC - TX_CLOCK/EIC - SCAN[6] (io), D7 PB06/GPIO 38/USB - VBOF/TC0 - B0/EIC - SCAN[5] (io)
part C pins: A5 PC02/GPIO 47/XIN0 (io), A6 PC03/GPIO 48/XOUT0 (io), A7 PC05/GPIO 50/XOUT1 (io), B7 PC04/GPIO 49/XIN1 (io), K5 PC00/GPIO 45 (PX14/GPIO 65/EBI - NCS[1]/TC0 - A0)/XIN32 (io), K6 PC01/GPIO 46/XOUT32 (io)
part D pins: D1 PX12/GPIO 63/EBI - NWE0/USART2 - CTS/MCI - CLK (io), D2 PX10/GPIO 61/EBI - DATA[0]/USART2 - RXD (io), D3 PX13/GPIO 64/EBI - NRD/USART2 - RTS/MCI - CLK (io), D4 PX16/GPIO 67/EBI - ADDR[18]/USART3 - CTS/TC0 - A1 (PX53/GPIO 104/EBI - NCS[2]/MCI - DATA[13]) (io), E3 PX08/GPIO 59/EBI - DATA[2]/USART3 - RXD (io), E4 PX09/GPIO 60/EBI - DATA[1]/USART3 - TXD (io), F1 PX19/GPIO 70/EBI - ADDR[15]/EIC - SCAN[0]/TC0 - B2 (PX59/GPIO 110/EBI - NANDWE/MCI - CMD[1]) (io), F3 PX06/GPIO 57/EBI - DATA[4]/USART1 - CTS (io), F4 PX07/GPIO 58/EBI - DATA[3]/USART1 - RTS (io), G1 PX05/GPIO 56/EBI - DATA[5]/USART1 - TXD (io), G2 PX01/GPIO 52/EBI - DATA[9]/USART0 - TXD/USART1 - DTR (io), G3 PX02/GPIO 53/EBI - DATA[8]/USART0 - CTS/PM - GCLK[0] (io), G4 PX00/GPIO 51/EBI - DATA[10]/USART0 - RXD/USART1 - RI (io), G5 PX30/GPIO 81/EBI - ADDR[4]/SPI0 - NPCS[0] (io), H1 PX04/GPIO 55/EBI - DATA[6]/USART1 - RXD (io), H2 PX21/GPIO 72/EBI - ADDR[13]/EIC - SCAN[2]/TC0 - CLK1 (io), H4 PX25/GPIO 76/EBI - ADDR[9]/EIC - SCAN[6]/SSC - RX_DATA (io), H5 PX31/GPIO 82/EBI - ADDR[3]/SPI0 - NPCS[1] (io), J1 PX03/GPIO 54/EBI - DATA[7]/USART0 - RTS (io), J2 PX24/GPIO 75/EBI - ADDR[10]/EIC - SCAN[5]/SSC - TX_DATA (io), J3 PX26/GPIO 77/EBI - ADDR[8]/EIC - SCAN[7]/SSC - RX_FRAME_SYNC (io), J4 PX29/GPIO 80/EBI - ADDR[5]/SPI0 - SPCK (io), K1 PX23/GPIO 74/EBI - ADDR[11]/EIC - SCAN[4]/SSC - TX_CLOCK (io), K2 PX27/GPIO 78/EBI - ADDR[7]/SPI0 - MISO/SSC - TX_FRAME_SYNC (io), K3 PX28/GPIO 79/EBI - ADDR[6]/SPI0 - MOSI/SSC - RX_CLOCK (io), K4 PX15/GPIO 66/EBI - ADDR[19]/USART3 - RTS/TC0 - B0 (PX32/GPIO 83/EBI - ADDR[2]/SPI0 - NPCS[2]) (io)
part E pins: A8 DPHS (in), A9 DMHS (in), A10 USB_VBUS (out), B8 DPFS (in), B9 DMFS (in), C7 USB_VBIAS, H7 TMS (in), J8 TDO (out), J9 RESET_N (in), K8 TDI (in), K9 TCK (in)
part F pins: B5 VDDIO (power), B6 VDDIO (power), B10 GNDPLL (power), C3 GNDIO (power), C8 GNDIO (power), D9 VDDIN (power), D10 VDDIN (power), E2 GNDIO (power), E5 VDDIO (power), E6 GNDIO (power), E10 VDDCORE (power), F2 VDDIO (power), F5 GNDIO (power), F6 VDDIO (power), F10 GNDCORE (power), H3 GNDIO (power), H8 GNDANA (power), J5 VDDIO (power), J6 VDDANA (power)

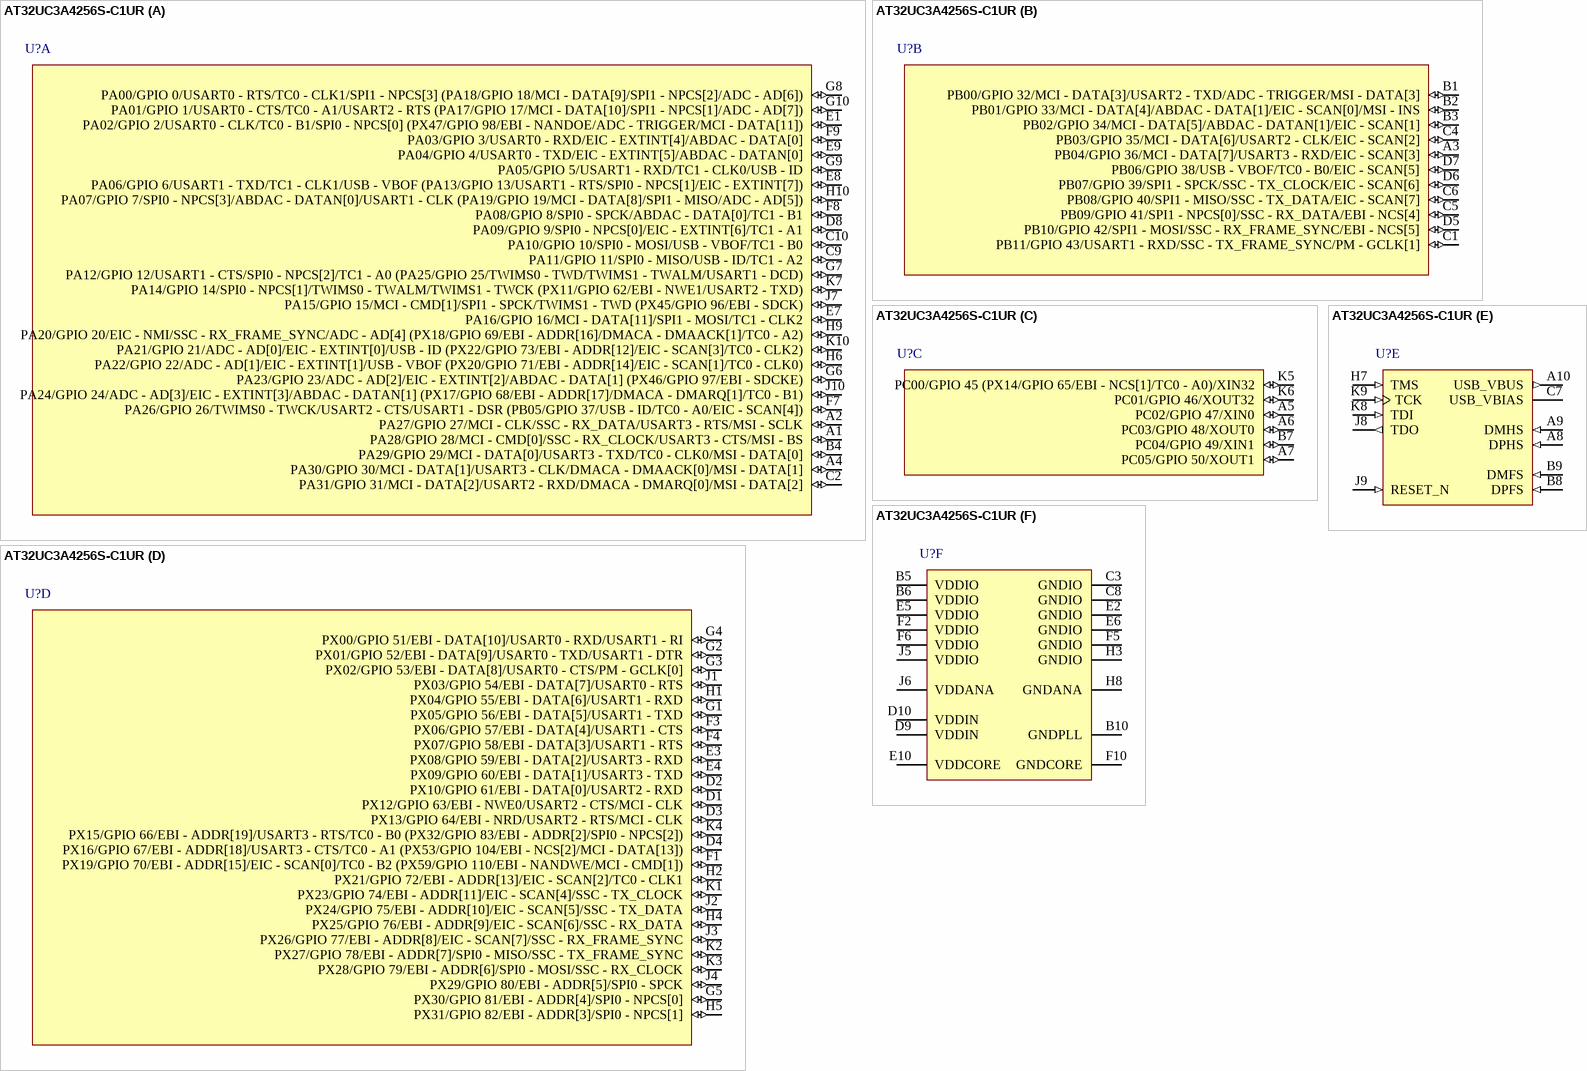
[diagram p54: symbol AT32UC3A4256S-C1UR]

## AT32UC3A4256S-C1UR
designator U?
32-bit AVR UC3 Microcontroller, 256KB Flash, 128KB SRAM, Crypto, 100-Ball VFBGA, Industrial Grade, Reel; DatasheetVersion: revG, Nov-2011; PackageVersion: 2011; PackageReference: VFBGA100; PackageDescription: 100-Ball Thin Fine-Pitch BGA, 7 x 7 x 0.66 mm Body, 0.65 mm Pitch; ComponentLink1Description: Manufacturer URL; ComponentLink1URL: http://www.atmel.com/; ComponentLink2Description: AT32UC3A3/A4 Datasheet; ComponentLink2URL: http://www.atmel.com/dyn/resources/prod_documents/doc32072.pdf; ComponentLink3Description: AT32UC3A3/A4 Summary; ComponentLink3URL: http://www.atmel.com/dyn/resources/prod_documents/32072s.pdf
footprint VFBGA100 (BGA, 100-Leads, Body 7x7mm, Pitch 0.65mm)
part A pins: A1 PA28/GPIO 28/MCI - CMD[0]/SSC - RX_CLOCK/USART3 - CTS/MSI - BS (io), A2 PA27/GPIO 27/MCI - CLK/SSC - RX_DATA/USART3 - RTS/MSI - SCLK (io), A4 PA30/GPIO 30/MCI - DATA[1]/USART3 - CLK/DMACA - DMAACK[0]/MSI - DATA[1] (io), B4 PA29/GPIO 29/MCI - DATA[0]/USART3 - TXD/TC0 - CLK0/MSI - DATA[0] (io), C2 PA31/GPIO 31/MCI - DATA[2]/USART2 - RXD/DMACA - DMARQ[0]/MSI - DATA[2] (io), C9 PA11/GPIO 11/SPI0 - MISO/USB - ID/TC1 - A2 (io), C10 PA10/GPIO 10/SPI0 - MOSI/USB - VBOF/TC1 - B0 (io), D8 PA09/GPIO 9/SPI0 - NPCS[0]/EIC - EXTINT[6]/TC1 - A1 (io), E1 PA02/GPIO 2/USART0 - CLK/TC0 - B1/SPI0 - NPCS[0] (PX47/GPIO 98/EBI - NANDOE/ADC - TRIGGER/MCI - DATA[11]) (io), E7 PA16/GPIO 16/MCI - DATA[11]/SPI1 - MOSI/TC1 - CLK2 (io), E8 PA06/GPIO 6/USART1 - TXD/TC1 - CLK1/USB - VBOF (PA13/GPIO 13/USART1 - RTS/SPI0 - NPCS[1]/EIC - EXTINT[7]) (io), E9 PA04/GPIO 4/USART0 - TXD/EIC - EXTINT[5]/ABDAC - DATAN[0] (io), F7 PA26/GPIO 26/TWIMS0 - TWCK/USART2 - CTS/USART1 - DSR (PB05/GPIO 37/USB - ID/TC0 - A0/EIC - SCAN[4]) (io), F8 PA08/GPIO 8/SPI0 - SPCK/ABDAC - DATA[0]/TC1 - B1 (io), F9 PA03/GPIO 3/USART0 - RXD/EIC - EXTINT[4]/ABDAC - DATA[0] (io), G6 PA23/GPIO 23/ADC - AD[2]/EIC - EXTINT[2]/ABDAC - DATA[1] (PX46/GPIO 97/EBI - SDCKE) (io), G7 PA12/GPIO 12/USART1 - CTS/SPI0 - NPCS[2]/TC1 - A0 (PA25/GPIO 25/TWIMS0 - TWD/TWIMS1 - TWALM/USART1 - DCD) (io), G8 PA00/GPIO 0/USART0 - RTS/TC0 - CLK1/SPI1 - NPCS[3] (PA18/GPIO 18/MCI - DATA[9]/SPI1 - NPCS[2]/ADC - AD[6]) (io), G9 PA05/GPIO 5/USART1 - RXD/TC1 - CLK0/USB - ID (io), G10 PA01/GPIO 1/USART0 - CTS/TC0 - A1/USART2 - RTS (PA17/GPIO 17/MCI - DATA[10]/SPI1 - NPCS[1]/ADC - AD[7]) (io), H6 PA22/GPIO 22/ADC - AD[1]/EIC - EXTINT[1]/USB - VBOF (PX20/GPIO 71/EBI - ADDR[14]/EIC - SCAN[1]/TC0 - CLK0) (io), H9 PA20/GPIO 20/EIC - NMI/SSC - RX_FRAME_SYNC/ADC - AD[4] (PX18/GPIO 69/EBI - ADDR[16]/DMACA - DMAACK[1]/TC0 - A2) (io), H10 PA07/GPIO 7/SPI0 - NPCS[3]/ABDAC - DATAN[0]/USART1 - CLK (PA19/GPIO 19/MCI - DATA[8]/SPI1 - MISO/ADC - AD[5]) (io), J7 PA15/GPIO 15/MCI - CMD[1]/SPI1 - SPCK/TWIMS1 - TWD (PX45/GPIO 96/EBI - SDCK) (io), J10 PA24/GPIO 24/ADC - AD[3]/EIC - EXTINT[3]/ABDAC - DATAN[1] (PX17/GPIO 68/EBI - ADDR[17]/DMACA - DMARQ[1]/TC0 - B1) (io), K7 PA14/GPIO 14/SPI0 - NPCS[1]/TWIMS0 - TWALM/TWIMS1 - TWCK (PX11/GPIO 62/EBI - NWE1/USART2 - TXD) (io), K10 PA21/GPIO 21/ADC - AD[0]/EIC - EXTINT[0]/USB - ID (PX22/GPIO 73/EBI - ADDR[12]/EIC - SCAN[3]/TC0 - CLK2) (io)
part B pins: A3 PB04/GPIO 36/MCI - DATA[7]/USART3 - RXD/EIC - SCAN[3] (io), B1 PB00/GPIO 32/MCI - DATA[3]/USART2 - TXD/ADC - TRIGGER/MSI - DATA[3] (io), B2 PB01/GPIO 33/MCI - DATA[4]/ABDAC - DATA[1]/EIC - SCAN[0]/MSI - INS (io), B3 PB02/GPIO 34/MCI - DATA[5]/ABDAC - DATAN[1]/EIC - SCAN[1] (io), C1 PB11/GPIO 43/USART1 - RXD/SSC - TX_FRAME_SYNC/PM - GCLK[1] (io), C4 PB03/GPIO 35/MCI - DATA[6]/USART2 - CLK/EIC - SCAN[2] (io), C5 PB09/GPIO 41/SPI1 - NPCS[0]/SSC - RX_DATA/EBI - NCS[4] (io), C6 PB08/GPIO 40/SPI1 - MISO/SSC - TX_DATA/EIC - SCAN[7] (io), D5 PB10/GPIO 42/SPI1 - MOSI/SSC - RX_FRAME_SYNC/EBI - NCS[5] (io), D6 PB07/GPIO 39/SPI1 - SPCK/SSC - TX_CLOCK/EIC - SCAN[6] (io), D7 PB06/GPIO 38/USB - VBOF/TC0 - B0/EIC - SCAN[5] (io)
part C pins: A5 PC02/GPIO 47/XIN0 (io), A6 PC03/GPIO 48/XOUT0 (io), A7 PC05/GPIO 50/XOUT1 (io), B7 PC04/GPIO 49/XIN1 (io), K5 PC00/GPIO 45 (PX14/GPIO 65/EBI - NCS[1]/TC0 - A0)/XIN32 (io), K6 PC01/GPIO 46/XOUT32 (io)
part D pins: D1 PX12/GPIO 63/EBI - NWE0/USART2 - CTS/MCI - CLK (io), D2 PX10/GPIO 61/EBI - DATA[0]/USART2 - RXD (io), D3 PX13/GPIO 64/EBI - NRD/USART2 - RTS/MCI - CLK (io), D4 PX16/GPIO 67/EBI - ADDR[18]/USART3 - CTS/TC0 - A1 (PX53/GPIO 104/EBI - NCS[2]/MCI - DATA[13]) (io), E3 PX08/GPIO 59/EBI - DATA[2]/USART3 - RXD (io), E4 PX09/GPIO 60/EBI - DATA[1]/USART3 - TXD (io), F1 PX19/GPIO 70/EBI - ADDR[15]/EIC - SCAN[0]/TC0 - B2 (PX59/GPIO 110/EBI - NANDWE/MCI - CMD[1]) (io), F3 PX06/GPIO 57/EBI - DATA[4]/USART1 - CTS (io), F4 PX07/GPIO 58/EBI - DATA[3]/USART1 - RTS (io), G1 PX05/GPIO 56/EBI - DATA[5]/USART1 - TXD (io), G2 PX01/GPIO 52/EBI - DATA[9]/USART0 - TXD/USART1 - DTR (io), G3 PX02/GPIO 53/EBI - DATA[8]/USART0 - CTS/PM - GCLK[0] (io), G4 PX00/GPIO 51/EBI - DATA[10]/USART0 - RXD/USART1 - RI (io), G5 PX30/GPIO 81/EBI - ADDR[4]/SPI0 - NPCS[0] (io), H1 PX04/GPIO 55/EBI - DATA[6]/USART1 - RXD (io), H2 PX21/GPIO 72/EBI - ADDR[13]/EIC - SCAN[2]/TC0 - CLK1 (io), H4 PX25/GPIO 76/EBI - ADDR[9]/EIC - SCAN[6]/SSC - RX_DATA (io), H5 PX31/GPIO 82/EBI - ADDR[3]/SPI0 - NPCS[1] (io), J1 PX03/GPIO 54/EBI - DATA[7]/USART0 - RTS (io), J2 PX24/GPIO 75/EBI - ADDR[10]/EIC - SCAN[5]/SSC - TX_DATA (io), J3 PX26/GPIO 77/EBI - ADDR[8]/EIC - SCAN[7]/SSC - RX_FRAME_SYNC (io), J4 PX29/GPIO 80/EBI - ADDR[5]/SPI0 - SPCK (io), K1 PX23/GPIO 74/EBI - ADDR[11]/EIC - SCAN[4]/SSC - TX_CLOCK (io), K2 PX27/GPIO 78/EBI - ADDR[7]/SPI0 - MISO/SSC - TX_FRAME_SYNC (io), K3 PX28/GPIO 79/EBI - ADDR[6]/SPI0 - MOSI/SSC - RX_CLOCK (io), K4 PX15/GPIO 66/EBI - ADDR[19]/USART3 - RTS/TC0 - B0 (PX32/GPIO 83/EBI - ADDR[2]/SPI0 - NPCS[2]) (io)
part E pins: A8 DPHS (in), A9 DMHS (in), A10 USB_VBUS (out), B8 DPFS (in), B9 DMFS (in), C7 USB_VBIAS, H7 TMS (in), J8 TDO (out), J9 RESET_N (in), K8 TDI (in), K9 TCK (in)
part F pins: B5 VDDIO (power), B6 VDDIO (power), B10 GNDPLL (power), C3 GNDIO (power), C8 GNDIO (power), D9 VDDIN (power), D10 VDDIN (power), E2 GNDIO (power), E5 VDDIO (power), E6 GNDIO (power), E10 VDDCORE (power), F2 VDDIO (power), F5 GNDIO (power), F6 VDDIO (power), F10 GNDCORE (power), H3 GNDIO (power), H8 GNDANA (power), J5 VDDIO (power), J6 VDDANA (power)

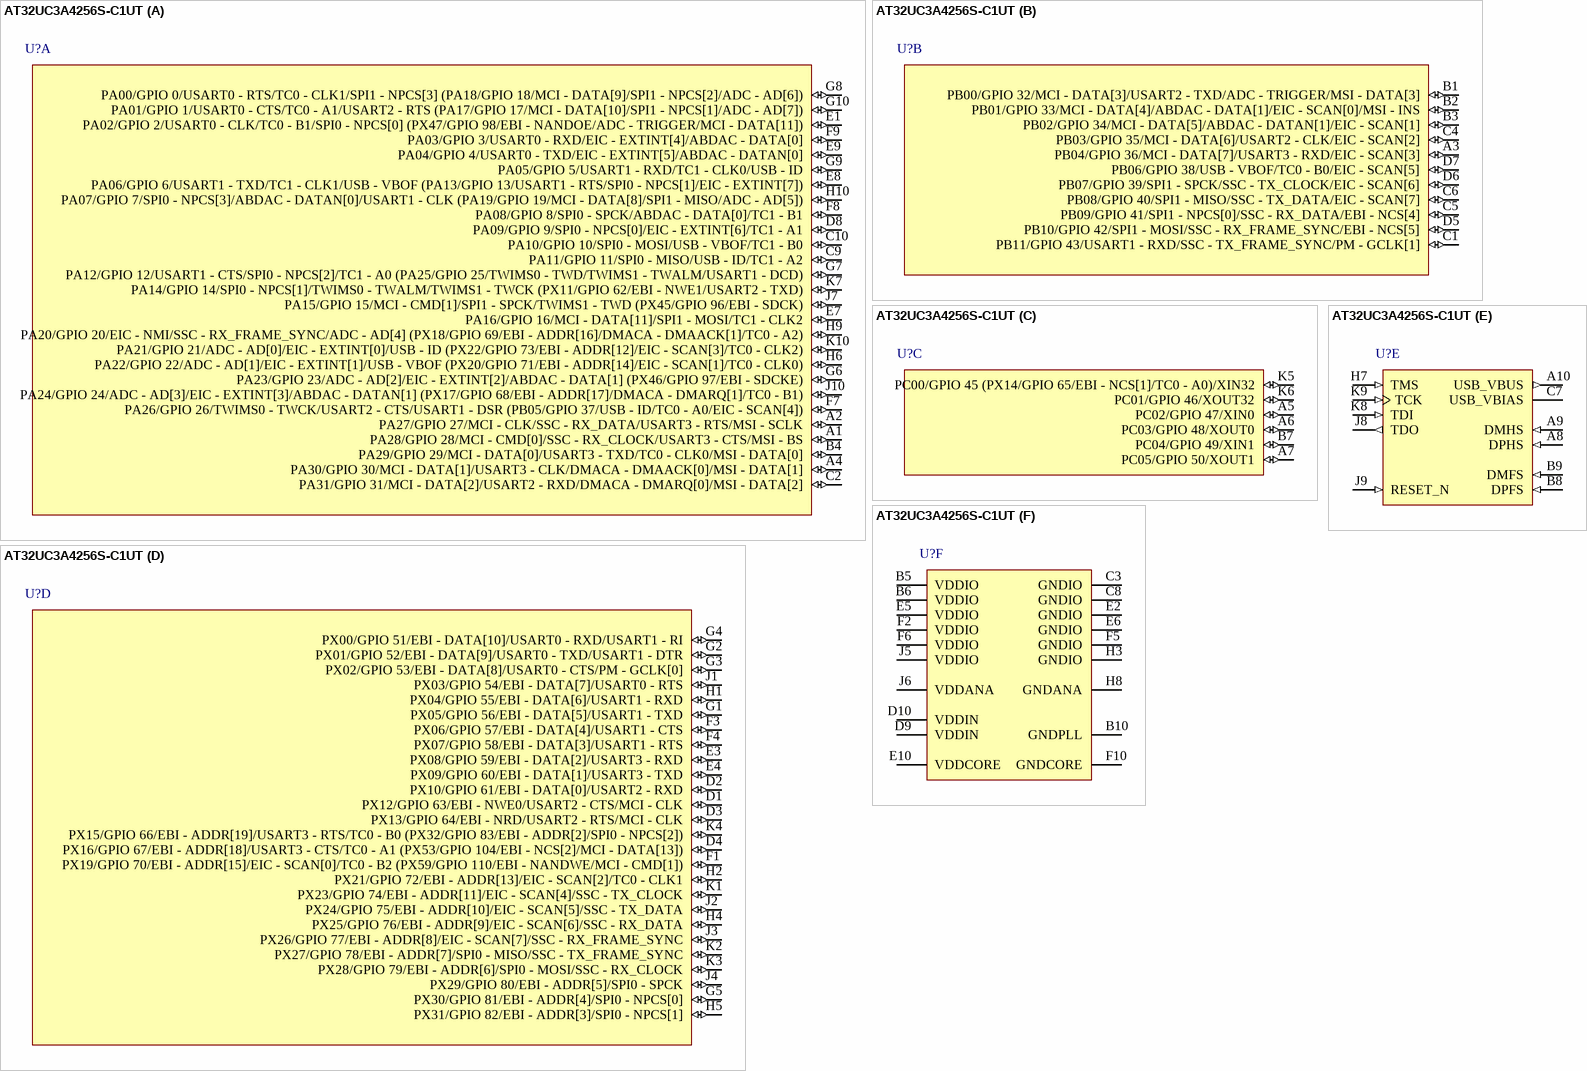
[diagram p55: symbol AT32UC3A4256S-C1UT]

## AT32UC3A4256S-C1UT
designator U?
32-bit AVR UC3 Microcontroller, 256KB Flash, 128KB SRAM, Crypto, 100-Ball VFBGA, Industrial Grade, Tray; DatasheetVersion: revG, Nov-2011; PackageVersion: 2011; PackageReference: VFBGA100; PackageDescription: 100-Ball Thin Fine-Pitch BGA, 7 x 7 x 0.66 mm Body, 0.65 mm Pitch; ComponentLink1Description: Manufacturer URL; ComponentLink1URL: http://www.atmel.com/; ComponentLink2Description: AT32UC3A3/A4 Datasheet; ComponentLink2URL: http://www.atmel.com/dyn/resources/prod_documents/doc32072.pdf; ComponentLink3Description: AT32UC3A3/A4 Summary; ComponentLink3URL: http://www.atmel.com/dyn/resources/prod_documents/32072s.pdf
footprint VFBGA100 (BGA, 100-Leads, Body 7x7mm, Pitch 0.65mm)
part A pins: A1 PA28/GPIO 28/MCI - CMD[0]/SSC - RX_CLOCK/USART3 - CTS/MSI - BS (io), A2 PA27/GPIO 27/MCI - CLK/SSC - RX_DATA/USART3 - RTS/MSI - SCLK (io), A4 PA30/GPIO 30/MCI - DATA[1]/USART3 - CLK/DMACA - DMAACK[0]/MSI - DATA[1] (io), B4 PA29/GPIO 29/MCI - DATA[0]/USART3 - TXD/TC0 - CLK0/MSI - DATA[0] (io), C2 PA31/GPIO 31/MCI - DATA[2]/USART2 - RXD/DMACA - DMARQ[0]/MSI - DATA[2] (io), C9 PA11/GPIO 11/SPI0 - MISO/USB - ID/TC1 - A2 (io), C10 PA10/GPIO 10/SPI0 - MOSI/USB - VBOF/TC1 - B0 (io), D8 PA09/GPIO 9/SPI0 - NPCS[0]/EIC - EXTINT[6]/TC1 - A1 (io), E1 PA02/GPIO 2/USART0 - CLK/TC0 - B1/SPI0 - NPCS[0] (PX47/GPIO 98/EBI - NANDOE/ADC - TRIGGER/MCI - DATA[11]) (io), E7 PA16/GPIO 16/MCI - DATA[11]/SPI1 - MOSI/TC1 - CLK2 (io), E8 PA06/GPIO 6/USART1 - TXD/TC1 - CLK1/USB - VBOF (PA13/GPIO 13/USART1 - RTS/SPI0 - NPCS[1]/EIC - EXTINT[7]) (io), E9 PA04/GPIO 4/USART0 - TXD/EIC - EXTINT[5]/ABDAC - DATAN[0] (io), F7 PA26/GPIO 26/TWIMS0 - TWCK/USART2 - CTS/USART1 - DSR (PB05/GPIO 37/USB - ID/TC0 - A0/EIC - SCAN[4]) (io), F8 PA08/GPIO 8/SPI0 - SPCK/ABDAC - DATA[0]/TC1 - B1 (io), F9 PA03/GPIO 3/USART0 - RXD/EIC - EXTINT[4]/ABDAC - DATA[0] (io), G6 PA23/GPIO 23/ADC - AD[2]/EIC - EXTINT[2]/ABDAC - DATA[1] (PX46/GPIO 97/EBI - SDCKE) (io), G7 PA12/GPIO 12/USART1 - CTS/SPI0 - NPCS[2]/TC1 - A0 (PA25/GPIO 25/TWIMS0 - TWD/TWIMS1 - TWALM/USART1 - DCD) (io), G8 PA00/GPIO 0/USART0 - RTS/TC0 - CLK1/SPI1 - NPCS[3] (PA18/GPIO 18/MCI - DATA[9]/SPI1 - NPCS[2]/ADC - AD[6]) (io), G9 PA05/GPIO 5/USART1 - RXD/TC1 - CLK0/USB - ID (io), G10 PA01/GPIO 1/USART0 - CTS/TC0 - A1/USART2 - RTS (PA17/GPIO 17/MCI - DATA[10]/SPI1 - NPCS[1]/ADC - AD[7]) (io), H6 PA22/GPIO 22/ADC - AD[1]/EIC - EXTINT[1]/USB - VBOF (PX20/GPIO 71/EBI - ADDR[14]/EIC - SCAN[1]/TC0 - CLK0) (io), H9 PA20/GPIO 20/EIC - NMI/SSC - RX_FRAME_SYNC/ADC - AD[4] (PX18/GPIO 69/EBI - ADDR[16]/DMACA - DMAACK[1]/TC0 - A2) (io), H10 PA07/GPIO 7/SPI0 - NPCS[3]/ABDAC - DATAN[0]/USART1 - CLK (PA19/GPIO 19/MCI - DATA[8]/SPI1 - MISO/ADC - AD[5]) (io), J7 PA15/GPIO 15/MCI - CMD[1]/SPI1 - SPCK/TWIMS1 - TWD (PX45/GPIO 96/EBI - SDCK) (io), J10 PA24/GPIO 24/ADC - AD[3]/EIC - EXTINT[3]/ABDAC - DATAN[1] (PX17/GPIO 68/EBI - ADDR[17]/DMACA - DMARQ[1]/TC0 - B1) (io), K7 PA14/GPIO 14/SPI0 - NPCS[1]/TWIMS0 - TWALM/TWIMS1 - TWCK (PX11/GPIO 62/EBI - NWE1/USART2 - TXD) (io), K10 PA21/GPIO 21/ADC - AD[0]/EIC - EXTINT[0]/USB - ID (PX22/GPIO 73/EBI - ADDR[12]/EIC - SCAN[3]/TC0 - CLK2) (io)
part B pins: A3 PB04/GPIO 36/MCI - DATA[7]/USART3 - RXD/EIC - SCAN[3] (io), B1 PB00/GPIO 32/MCI - DATA[3]/USART2 - TXD/ADC - TRIGGER/MSI - DATA[3] (io), B2 PB01/GPIO 33/MCI - DATA[4]/ABDAC - DATA[1]/EIC - SCAN[0]/MSI - INS (io), B3 PB02/GPIO 34/MCI - DATA[5]/ABDAC - DATAN[1]/EIC - SCAN[1] (io), C1 PB11/GPIO 43/USART1 - RXD/SSC - TX_FRAME_SYNC/PM - GCLK[1] (io), C4 PB03/GPIO 35/MCI - DATA[6]/USART2 - CLK/EIC - SCAN[2] (io), C5 PB09/GPIO 41/SPI1 - NPCS[0]/SSC - RX_DATA/EBI - NCS[4] (io), C6 PB08/GPIO 40/SPI1 - MISO/SSC - TX_DATA/EIC - SCAN[7] (io), D5 PB10/GPIO 42/SPI1 - MOSI/SSC - RX_FRAME_SYNC/EBI - NCS[5] (io), D6 PB07/GPIO 39/SPI1 - SPCK/SSC - TX_CLOCK/EIC - SCAN[6] (io), D7 PB06/GPIO 38/USB - VBOF/TC0 - B0/EIC - SCAN[5] (io)
part C pins: A5 PC02/GPIO 47/XIN0 (io), A6 PC03/GPIO 48/XOUT0 (io), A7 PC05/GPIO 50/XOUT1 (io), B7 PC04/GPIO 49/XIN1 (io), K5 PC00/GPIO 45 (PX14/GPIO 65/EBI - NCS[1]/TC0 - A0)/XIN32 (io), K6 PC01/GPIO 46/XOUT32 (io)
part D pins: D1 PX12/GPIO 63/EBI - NWE0/USART2 - CTS/MCI - CLK (io), D2 PX10/GPIO 61/EBI - DATA[0]/USART2 - RXD (io), D3 PX13/GPIO 64/EBI - NRD/USART2 - RTS/MCI - CLK (io), D4 PX16/GPIO 67/EBI - ADDR[18]/USART3 - CTS/TC0 - A1 (PX53/GPIO 104/EBI - NCS[2]/MCI - DATA[13]) (io), E3 PX08/GPIO 59/EBI - DATA[2]/USART3 - RXD (io), E4 PX09/GPIO 60/EBI - DATA[1]/USART3 - TXD (io), F1 PX19/GPIO 70/EBI - ADDR[15]/EIC - SCAN[0]/TC0 - B2 (PX59/GPIO 110/EBI - NANDWE/MCI - CMD[1]) (io), F3 PX06/GPIO 57/EBI - DATA[4]/USART1 - CTS (io), F4 PX07/GPIO 58/EBI - DATA[3]/USART1 - RTS (io), G1 PX05/GPIO 56/EBI - DATA[5]/USART1 - TXD (io), G2 PX01/GPIO 52/EBI - DATA[9]/USART0 - TXD/USART1 - DTR (io), G3 PX02/GPIO 53/EBI - DATA[8]/USART0 - CTS/PM - GCLK[0] (io), G4 PX00/GPIO 51/EBI - DATA[10]/USART0 - RXD/USART1 - RI (io), G5 PX30/GPIO 81/EBI - ADDR[4]/SPI0 - NPCS[0] (io), H1 PX04/GPIO 55/EBI - DATA[6]/USART1 - RXD (io), H2 PX21/GPIO 72/EBI - ADDR[13]/EIC - SCAN[2]/TC0 - CLK1 (io), H4 PX25/GPIO 76/EBI - ADDR[9]/EIC - SCAN[6]/SSC - RX_DATA (io), H5 PX31/GPIO 82/EBI - ADDR[3]/SPI0 - NPCS[1] (io), J1 PX03/GPIO 54/EBI - DATA[7]/USART0 - RTS (io), J2 PX24/GPIO 75/EBI - ADDR[10]/EIC - SCAN[5]/SSC - TX_DATA (io), J3 PX26/GPIO 77/EBI - ADDR[8]/EIC - SCAN[7]/SSC - RX_FRAME_SYNC (io), J4 PX29/GPIO 80/EBI - ADDR[5]/SPI0 - SPCK (io), K1 PX23/GPIO 74/EBI - ADDR[11]/EIC - SCAN[4]/SSC - TX_CLOCK (io), K2 PX27/GPIO 78/EBI - ADDR[7]/SPI0 - MISO/SSC - TX_FRAME_SYNC (io), K3 PX28/GPIO 79/EBI - ADDR[6]/SPI0 - MOSI/SSC - RX_CLOCK (io), K4 PX15/GPIO 66/EBI - ADDR[19]/USART3 - RTS/TC0 - B0 (PX32/GPIO 83/EBI - ADDR[2]/SPI0 - NPCS[2]) (io)
part E pins: A8 DPHS (in), A9 DMHS (in), A10 USB_VBUS (out), B8 DPFS (in), B9 DMFS (in), C7 USB_VBIAS, H7 TMS (in), J8 TDO (out), J9 RESET_N (in), K8 TDI (in), K9 TCK (in)
part F pins: B5 VDDIO (power), B6 VDDIO (power), B10 GNDPLL (power), C3 GNDIO (power), C8 GNDIO (power), D9 VDDIN (power), D10 VDDIN (power), E2 GNDIO (power), E5 VDDIO (power), E6 GNDIO (power), E10 VDDCORE (power), F2 VDDIO (power), F5 GNDIO (power), F6 VDDIO (power), F10 GNDCORE (power), H3 GNDIO (power), H8 GNDANA (power), J5 VDDIO (power), J6 VDDANA (power)

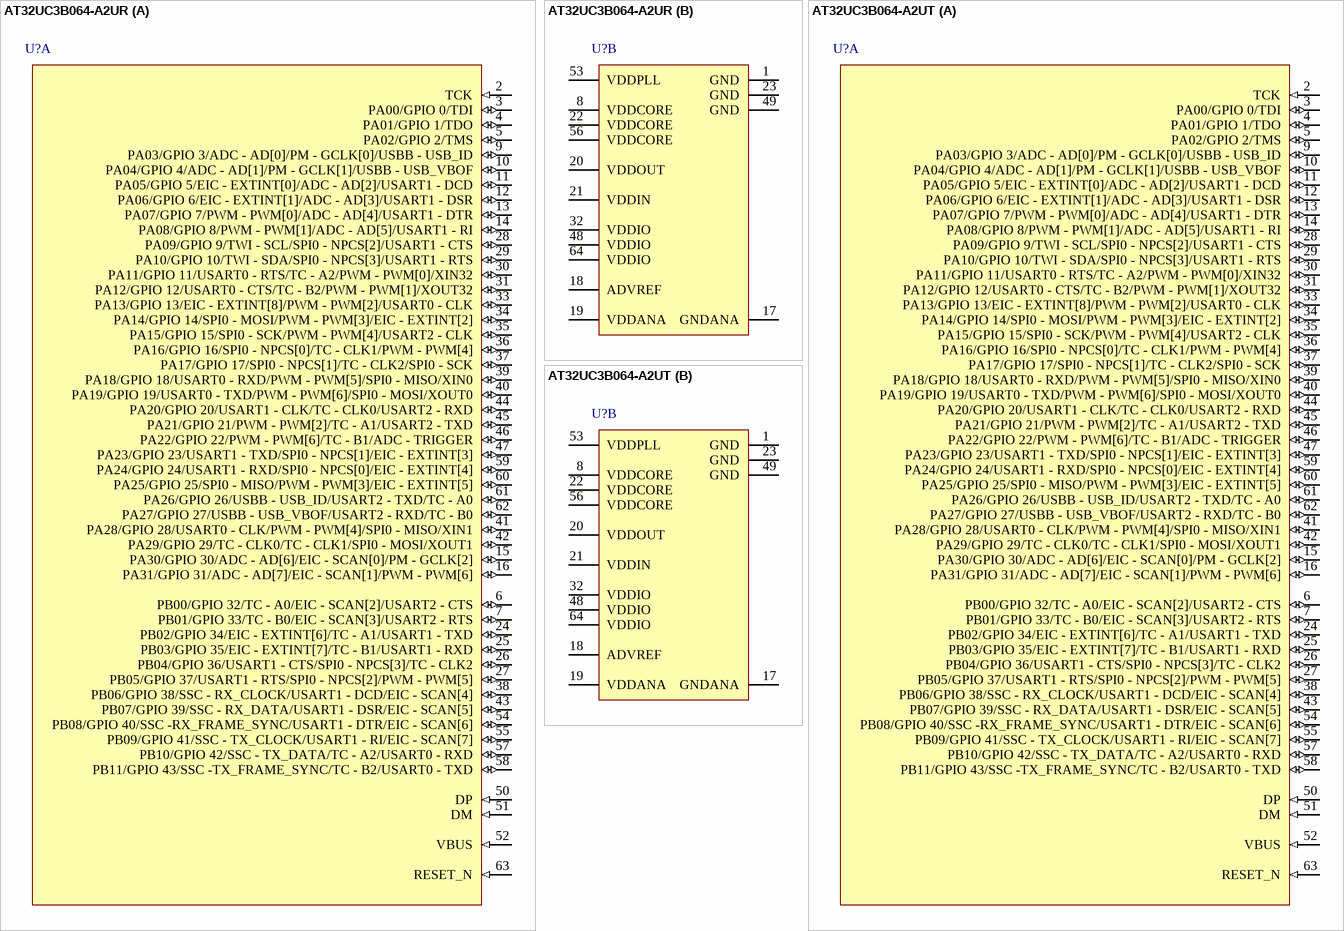
[diagram p56: symbols AT32UC3B064-A2UR to AT32UC3B064-A2UT]

## AT32UC3B064-A2UR
designator U?
32-bit AVR UC3 B Series Microcontroller, 64KB Flash, 16KB SRAM, 44 GPIO pins, Industrial Grade, 64-Pin TQFP, Reel; DatasheetVersion: revL, Jan-2012; PackageVersion: 2011; PackageReference: TQFP64; PackageDescription: 64-Pin Thin Quad Flat Pack, 10 x 10 x 1.0 mm Body, 0.5 mm Pitch; Code_JEDEC: MS-026; ComponentLink1Description: Manufacturer URL; ComponentLink1URL: http://www.atmel.com/; ComponentLink2Description: AT32UC3B Datasheet; ComponentLink2URL: http://www.atmel.com/dyn/resources/prod_documents/doc32059.pdf; ComponentLink3Description: AT32UC3B Summary; ComponentLink3URL: http://www.atmel.com/dyn/resources/prod_documents/32059S.pdf
footprint TQFP64_N (Thin QFP, 64-Leads, Body 10x10mm, Pitch 0.5mm, IPC Medium Density)
footprint TQFP64_L (Thin QFP, 64-Leads, Body 10x10mm, Pitch 0.5mm, IPC High Density)
footprint TQFP64_M (Thin QFP, 64-Leads, Body 10x10mm, Pitch 0.5mm, IPC Low Density)
part A pins: 2 TCK (in), 3 PA00/GPIO 0/TDI (io), 4 PA01/GPIO 1/TDO (io), 5 PA02/GPIO 2/TMS (io), 6 PB00/GPIO 32/TC - A0/EIC - SCAN[2]/USART2 - CTS (io), 7 PB01/GPIO 33/TC - B0/EIC - SCAN[3]/USART2 - RTS (io), 9 PA03/GPIO 3/ADC - AD[0]/PM - GCLK[0]/USBB - USB_ID (io), 10 PA04/GPIO 4/ADC - AD[1]/PM - GCLK[1]/USBB - USB_VBOF (io), 11 PA05/GPIO 5/EIC - EXTINT[0]/ADC - AD[2]/USART1 - DCD (io), 12 PA06/GPIO 6/EIC - EXTINT[1]/ADC - AD[3]/USART1 - DSR (io), 13 PA07/GPIO 7/PWM - PWM[0]/ADC - AD[4]/USART1 - DTR (io), 14 PA08/GPIO 8/PWM - PWM[1]/ADC - AD[5]/USART1 - RI (io), 15 PA30/GPIO 30/ADC - AD[6]/EIC - SCAN[0]/PM - GCLK[2] (io), 16 PA31/GPIO 31/ADC - AD[7]/EIC - SCAN[1]/PWM - PWM[6] (io), 24 PB02/GPIO 34/EIC - EXTINT[6]/TC - A1/USART1 - TXD (io), 25 PB03/GPIO 35/EIC - EXTINT[7]/TC - B1/USART1 - RXD (io), 26 PB04/GPIO 36/USART1 - CTS/SPI0 - NPCS[3]/TC - CLK2 (io), 27 PB05/GPIO 37/USART1 - RTS/SPI0 - NPCS[2]/PWM - PWM[5] (io), 28 PA09/GPIO 9/TWI - SCL/SPI0 - NPCS[2]/USART1 - CTS (io), 29 PA10/GPIO 10/TWI - SDA/SPI0 - NPCS[3]/USART1 - RTS (io), 30 PA11/GPIO 11/USART0 - RTS/TC - A2/PWM - PWM[0]/XIN32 (io), 31 PA12/GPIO 12/USART0 - CTS/TC - B2/PWM - PWM[1]/XOUT32 (io), 33 PA13/GPIO 13/EIC - EXTINT[8]/PWM - PWM[2]/USART0 - CLK (io), 34 PA14/GPIO 14/SPI0 - MOSI/PWM - PWM[3]/EIC - EXTINT[2] (io), 35 PA15/GPIO 15/SPI0 - SCK/PWM - PWM[4]/USART2 - CLK (io), 36 PA16/GPIO 16/SPI0 - NPCS[0]/TC - CLK1/PWM - PWM[4] (io), 37 PA17/GPIO 17/SPI0 - NPCS[1]/TC - CLK2/SPI0 - SCK (io), 38 PB06/GPIO 38/SSC - RX_CLOCK/USART1 - DCD/EIC - SCAN[4] (io), 39 PA18/GPIO 18/USART0 - RXD/PWM - PWM[5]/SPI0 - MISO/XIN0 (io), 40 PA19/GPIO 19/USART0 - TXD/PWM - PWM[6]/SPI0 - MOSI/XOUT0 (io), 41 PA28/GPIO 28/USART0 - CLK/PWM - PWM[4]/SPI0 - MISO/XIN1 (io), 42 PA29/GPIO 29/TC - CLK0/TC - CLK1/SPI0 - MOSI/XOUT1 (io), 43 PB07/GPIO 39/SSC - RX_DATA/USART1 - DSR/EIC - SCAN[5] (io), 44 PA20/GPIO 20/USART1 - CLK/TC - CLK0/USART2 - RXD (io), 45 PA21/GPIO 21/PWM - PWM[2]/TC - A1/USART2 - TXD (io), 46 PA22/GPIO 22/PWM - PWM[6]/TC - B1/ADC - TRIGGER (io), 47 PA23/GPIO 23/USART1 - TXD/SPI0 - NPCS[1]/EIC - EXTINT[3] (io), 50 DP (in), 51 DM (in), 52 VBUS (in), 54 PB08/GPIO 40/SSC -RX_FRAME_SYNC/USART1 - DTR/EIC - SCAN[6] (io), 55 PB09/GPIO 41/SSC - TX_CLOCK/USART1 - RI/EIC - SCAN[7] (io), 57 PB10/GPIO 42/SSC - TX_DATA/TC - A2/USART0 - RXD (io), 58 PB11/GPIO 43/SSC -TX_FRAME_SYNC/TC - B2/USART0 - TXD (io), 59 PA24/GPIO 24/USART1 - RXD/SPI0 - NPCS[0]/EIC - EXTINT[4] (io), 60 PA25/GPIO 25/SPI0 - MISO/PWM - PWM[3]/EIC - EXTINT[5] (io), 61 PA26/GPIO 26/USBB - USB_ID/USART2 - TXD/TC - A0 (io), 62 PA27/GPIO 27/USBB - USB_VBOF/USART2 - RXD/TC - B0 (io), 63 RESET_N (in)
part B pins: 1 GND (power), 8 VDDCORE (power), 17 GNDANA (power), 18 ADVREF (power), 19 VDDANA (power), 20 VDDOUT (power), 21 VDDIN (power), 22 VDDCORE (power), 23 GND (power), 32 VDDIO (power), 48 VDDIO (power), 49 GND (power), 53 VDDPLL (power), 56 VDDCORE (power), 64 VDDIO (power)

## AT32UC3B064-A2UT
designator U?
32-bit AVR UC3 B Series Microcontroller, 64KB Flash, 16KB SRAM, 44 GPIO pins, Industrial Grade, 64-Pin TQFP, Tray; DatasheetVersion: revL, Jan-2012; PackageVersion: 2011; PackageReference: TQFP64; PackageDescription: 64-Pin Thin Quad Flat Pack, 10 x 10 x 1.0 mm Body, 0.5 mm Pitch; Code_JEDEC: MS-026; ComponentLink1Description: Manufacturer URL; ComponentLink1URL: http://www.atmel.com/; ComponentLink2Description: AT32UC3B Datasheet; ComponentLink2URL: http://www.atmel.com/dyn/resources/prod_documents/doc32059.pdf; ComponentLink3Description: AT32UC3B Summary; ComponentLink3URL: http://www.atmel.com/dyn/resources/prod_documents/32059S.pdf
footprint TQFP64_N (Thin QFP, 64-Leads, Body 10x10mm, Pitch 0.5mm, IPC Medium Density)
footprint TQFP64_L (Thin QFP, 64-Leads, Body 10x10mm, Pitch 0.5mm, IPC High Density)
footprint TQFP64_M (Thin QFP, 64-Leads, Body 10x10mm, Pitch 0.5mm, IPC Low Density)
part A pins: 2 TCK (in), 3 PA00/GPIO 0/TDI (io), 4 PA01/GPIO 1/TDO (io), 5 PA02/GPIO 2/TMS (io), 6 PB00/GPIO 32/TC - A0/EIC - SCAN[2]/USART2 - CTS (io), 7 PB01/GPIO 33/TC - B0/EIC - SCAN[3]/USART2 - RTS (io), 9 PA03/GPIO 3/ADC - AD[0]/PM - GCLK[0]/USBB - USB_ID (io), 10 PA04/GPIO 4/ADC - AD[1]/PM - GCLK[1]/USBB - USB_VBOF (io), 11 PA05/GPIO 5/EIC - EXTINT[0]/ADC - AD[2]/USART1 - DCD (io), 12 PA06/GPIO 6/EIC - EXTINT[1]/ADC - AD[3]/USART1 - DSR (io), 13 PA07/GPIO 7/PWM - PWM[0]/ADC - AD[4]/USART1 - DTR (io), 14 PA08/GPIO 8/PWM - PWM[1]/ADC - AD[5]/USART1 - RI (io), 15 PA30/GPIO 30/ADC - AD[6]/EIC - SCAN[0]/PM - GCLK[2] (io), 16 PA31/GPIO 31/ADC - AD[7]/EIC - SCAN[1]/PWM - PWM[6] (io), 24 PB02/GPIO 34/EIC - EXTINT[6]/TC - A1/USART1 - TXD (io), 25 PB03/GPIO 35/EIC - EXTINT[7]/TC - B1/USART1 - RXD (io), 26 PB04/GPIO 36/USART1 - CTS/SPI0 - NPCS[3]/TC - CLK2 (io), 27 PB05/GPIO 37/USART1 - RTS/SPI0 - NPCS[2]/PWM - PWM[5] (io), 28 PA09/GPIO 9/TWI - SCL/SPI0 - NPCS[2]/USART1 - CTS (io), 29 PA10/GPIO 10/TWI - SDA/SPI0 - NPCS[3]/USART1 - RTS (io), 30 PA11/GPIO 11/USART0 - RTS/TC - A2/PWM - PWM[0]/XIN32 (io), 31 PA12/GPIO 12/USART0 - CTS/TC - B2/PWM - PWM[1]/XOUT32 (io), 33 PA13/GPIO 13/EIC - EXTINT[8]/PWM - PWM[2]/USART0 - CLK (io), 34 PA14/GPIO 14/SPI0 - MOSI/PWM - PWM[3]/EIC - EXTINT[2] (io), 35 PA15/GPIO 15/SPI0 - SCK/PWM - PWM[4]/USART2 - CLK (io), 36 PA16/GPIO 16/SPI0 - NPCS[0]/TC - CLK1/PWM - PWM[4] (io), 37 PA17/GPIO 17/SPI0 - NPCS[1]/TC - CLK2/SPI0 - SCK (io), 38 PB06/GPIO 38/SSC - RX_CLOCK/USART1 - DCD/EIC - SCAN[4] (io), 39 PA18/GPIO 18/USART0 - RXD/PWM - PWM[5]/SPI0 - MISO/XIN0 (io), 40 PA19/GPIO 19/USART0 - TXD/PWM - PWM[6]/SPI0 - MOSI/XOUT0 (io), 41 PA28/GPIO 28/USART0 - CLK/PWM - PWM[4]/SPI0 - MISO/XIN1 (io), 42 PA29/GPIO 29/TC - CLK0/TC - CLK1/SPI0 - MOSI/XOUT1 (io), 43 PB07/GPIO 39/SSC - RX_DATA/USART1 - DSR/EIC - SCAN[5] (io), 44 PA20/GPIO 20/USART1 - CLK/TC - CLK0/USART2 - RXD (io), 45 PA21/GPIO 21/PWM - PWM[2]/TC - A1/USART2 - TXD (io), 46 PA22/GPIO 22/PWM - PWM[6]/TC - B1/ADC - TRIGGER (io), 47 PA23/GPIO 23/USART1 - TXD/SPI0 - NPCS[1]/EIC - EXTINT[3] (io), 50 DP (in), 51 DM (in), 52 VBUS (in), 54 PB08/GPIO 40/SSC -RX_FRAME_SYNC/USART1 - DTR/EIC - SCAN[6] (io), 55 PB09/GPIO 41/SSC - TX_CLOCK/USART1 - RI/EIC - SCAN[7] (io), 57 PB10/GPIO 42/SSC - TX_DATA/TC - A2/USART0 - RXD (io), 58 PB11/GPIO 43/SSC -TX_FRAME_SYNC/TC - B2/USART0 - TXD (io), 59 PA24/GPIO 24/USART1 - RXD/SPI0 - NPCS[0]/EIC - EXTINT[4] (io), 60 PA25/GPIO 25/SPI0 - MISO/PWM - PWM[3]/EIC - EXTINT[5] (io), 61 PA26/GPIO 26/USBB - USB_ID/USART2 - TXD/TC - A0 (io), 62 PA27/GPIO 27/USBB - USB_VBOF/USART2 - RXD/TC - B0 (io), 63 RESET_N (in)
part B pins: 1 GND (power), 8 VDDCORE (power), 17 GNDANA (power), 18 ADVREF (power), 19 VDDANA (power), 20 VDDOUT (power), 21 VDDIN (power), 22 VDDCORE (power), 23 GND (power), 32 VDDIO (power), 48 VDDIO (power), 49 GND (power), 53 VDDPLL (power), 56 VDDCORE (power), 64 VDDIO (power)

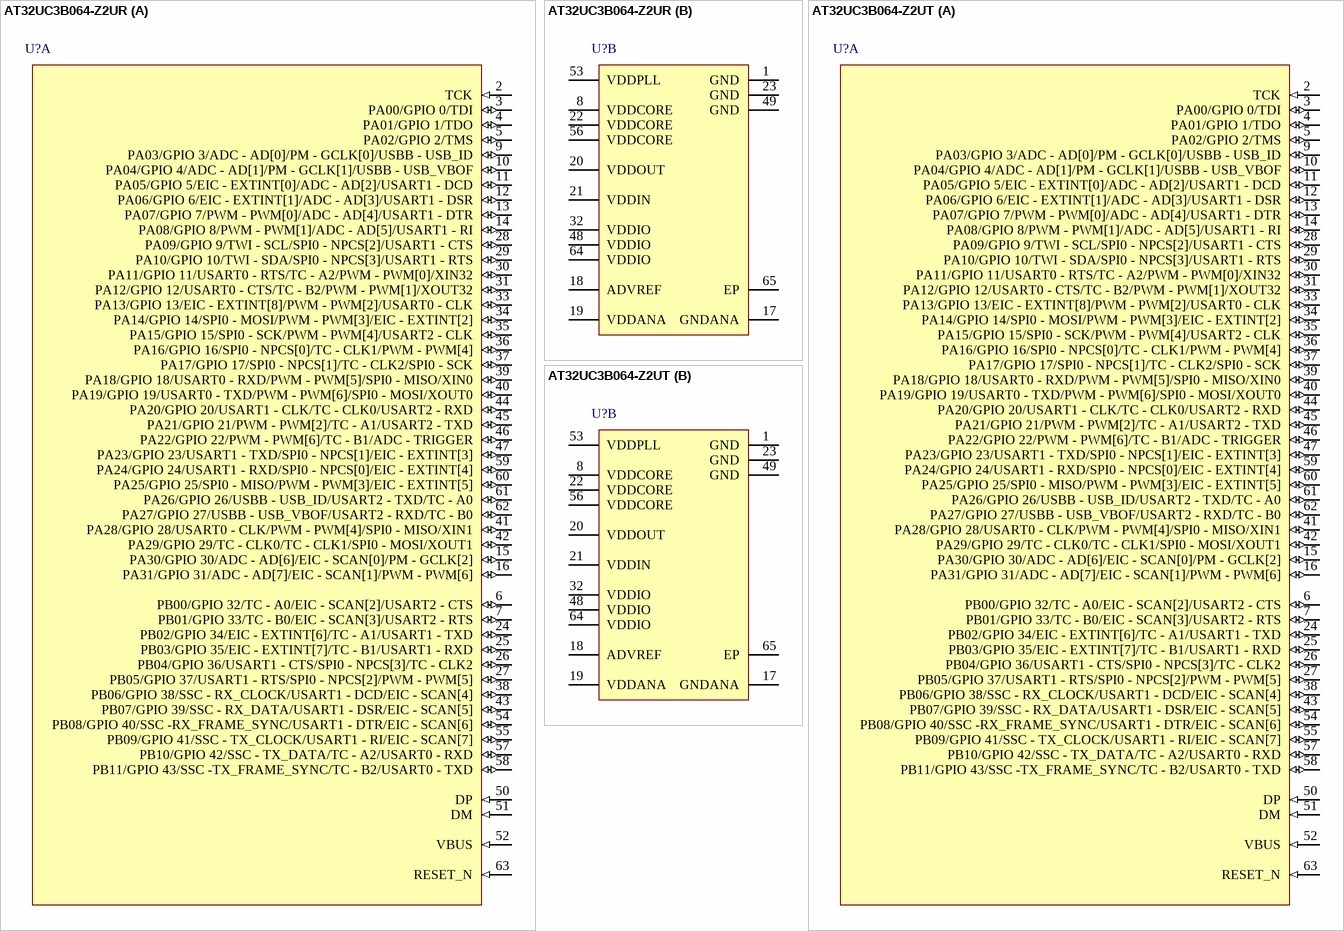
[diagram p57: symbols AT32UC3B064-Z2UR to AT32UC3B064-Z2UT]

## AT32UC3B064-Z2UR
designator U?
32-bit AVR UC3 B Series Microcontroller, 64KB Flash, 16KB SRAM, 44 GPIO pins, Industrial Grade, 64-Pin QFN, Reel; DatasheetVersion: revL, Jan-2012; PackageVersion: 2011; PackageReference: VQFN64; PackageDescription: 64-Pin Quad Flat No-Lead, Punched, 9 x 9 x 0.9 mm Body, 0.5 mm Pitch, Exposed Pad; Code_JEDEC: MO-220; ComponentLink1Description: Manufacturer URL; ComponentLink1URL: http://www.atmel.com/; ComponentLink2Description: AT32UC3B Datasheet; ComponentLink2URL: http://www.atmel.com/dyn/resources/prod_documents/doc32059.pdf; ComponentLink3Description: AT32UC3B Summary; ComponentLink3URL: http://www.atmel.com/dyn/resources/prod_documents/32059S.pdf
footprint VQFN64_N (QFN, 64-Leads, Body 9x9mm, Pitch 0.5mm, Thermal Pad 7.5x7.5mm, IPC Medium Density)
footprint VQFN64_L (QFN, 64-Leads, Body 9x9mm, Pitch 0.5mm, Thermal Pad 7.5x7.5mm, IPC High Density)
footprint VQFN64_M (QFN, 64-Leads, Body 9x9mm, Pitch 0.5mm, Thermal Pad 7.5x7.5mm, IPC Low Density)
part A pins: 2 TCK (in), 3 PA00/GPIO 0/TDI (io), 4 PA01/GPIO 1/TDO (io), 5 PA02/GPIO 2/TMS (io), 6 PB00/GPIO 32/TC - A0/EIC - SCAN[2]/USART2 - CTS (io), 7 PB01/GPIO 33/TC - B0/EIC - SCAN[3]/USART2 - RTS (io), 9 PA03/GPIO 3/ADC - AD[0]/PM - GCLK[0]/USBB - USB_ID (io), 10 PA04/GPIO 4/ADC - AD[1]/PM - GCLK[1]/USBB - USB_VBOF (io), 11 PA05/GPIO 5/EIC - EXTINT[0]/ADC - AD[2]/USART1 - DCD (io), 12 PA06/GPIO 6/EIC - EXTINT[1]/ADC - AD[3]/USART1 - DSR (io), 13 PA07/GPIO 7/PWM - PWM[0]/ADC - AD[4]/USART1 - DTR (io), 14 PA08/GPIO 8/PWM - PWM[1]/ADC - AD[5]/USART1 - RI (io), 15 PA30/GPIO 30/ADC - AD[6]/EIC - SCAN[0]/PM - GCLK[2] (io), 16 PA31/GPIO 31/ADC - AD[7]/EIC - SCAN[1]/PWM - PWM[6] (io), 24 PB02/GPIO 34/EIC - EXTINT[6]/TC - A1/USART1 - TXD (io), 25 PB03/GPIO 35/EIC - EXTINT[7]/TC - B1/USART1 - RXD (io), 26 PB04/GPIO 36/USART1 - CTS/SPI0 - NPCS[3]/TC - CLK2 (io), 27 PB05/GPIO 37/USART1 - RTS/SPI0 - NPCS[2]/PWM - PWM[5] (io), 28 PA09/GPIO 9/TWI - SCL/SPI0 - NPCS[2]/USART1 - CTS (io), 29 PA10/GPIO 10/TWI - SDA/SPI0 - NPCS[3]/USART1 - RTS (io), 30 PA11/GPIO 11/USART0 - RTS/TC - A2/PWM - PWM[0]/XIN32 (io), 31 PA12/GPIO 12/USART0 - CTS/TC - B2/PWM - PWM[1]/XOUT32 (io), 33 PA13/GPIO 13/EIC - EXTINT[8]/PWM - PWM[2]/USART0 - CLK (io), 34 PA14/GPIO 14/SPI0 - MOSI/PWM - PWM[3]/EIC - EXTINT[2] (io), 35 PA15/GPIO 15/SPI0 - SCK/PWM - PWM[4]/USART2 - CLK (io), 36 PA16/GPIO 16/SPI0 - NPCS[0]/TC - CLK1/PWM - PWM[4] (io), 37 PA17/GPIO 17/SPI0 - NPCS[1]/TC - CLK2/SPI0 - SCK (io), 38 PB06/GPIO 38/SSC - RX_CLOCK/USART1 - DCD/EIC - SCAN[4] (io), 39 PA18/GPIO 18/USART0 - RXD/PWM - PWM[5]/SPI0 - MISO/XIN0 (io), 40 PA19/GPIO 19/USART0 - TXD/PWM - PWM[6]/SPI0 - MOSI/XOUT0 (io), 41 PA28/GPIO 28/USART0 - CLK/PWM - PWM[4]/SPI0 - MISO/XIN1 (io), 42 PA29/GPIO 29/TC - CLK0/TC - CLK1/SPI0 - MOSI/XOUT1 (io), 43 PB07/GPIO 39/SSC - RX_DATA/USART1 - DSR/EIC - SCAN[5] (io), 44 PA20/GPIO 20/USART1 - CLK/TC - CLK0/USART2 - RXD (io), 45 PA21/GPIO 21/PWM - PWM[2]/TC - A1/USART2 - TXD (io), 46 PA22/GPIO 22/PWM - PWM[6]/TC - B1/ADC - TRIGGER (io), 47 PA23/GPIO 23/USART1 - TXD/SPI0 - NPCS[1]/EIC - EXTINT[3] (io), 50 DP (in), 51 DM (in), 52 VBUS (in), 54 PB08/GPIO 40/SSC -RX_FRAME_SYNC/USART1 - DTR/EIC - SCAN[6] (io), 55 PB09/GPIO 41/SSC - TX_CLOCK/USART1 - RI/EIC - SCAN[7] (io), 57 PB10/GPIO 42/SSC - TX_DATA/TC - A2/USART0 - RXD (io), 58 PB11/GPIO 43/SSC -TX_FRAME_SYNC/TC - B2/USART0 - TXD (io), 59 PA24/GPIO 24/USART1 - RXD/SPI0 - NPCS[0]/EIC - EXTINT[4] (io), 60 PA25/GPIO 25/SPI0 - MISO/PWM - PWM[3]/EIC - EXTINT[5] (io), 61 PA26/GPIO 26/USBB - USB_ID/USART2 - TXD/TC - A0 (io), 62 PA27/GPIO 27/USBB - USB_VBOF/USART2 - RXD/TC - B0 (io), 63 RESET_N (in)
part B pins: 1 GND (power), 8 VDDCORE (power), 17 GNDANA (power), 18 ADVREF (power), 19 VDDANA (power), 20 VDDOUT (power), 21 VDDIN (power), 22 VDDCORE (power), 23 GND (power), 32 VDDIO (power), 48 VDDIO (power), 49 GND (power), 53 VDDPLL (power), 56 VDDCORE (power), 64 VDDIO (power), 65 EP (power)